# Altium schematic symbol library MZBT_SchLibrary.SchLib: 117 symbols (part 1 of 2)
Pins are listed as number, name and electrical type; pins without a type are passive.

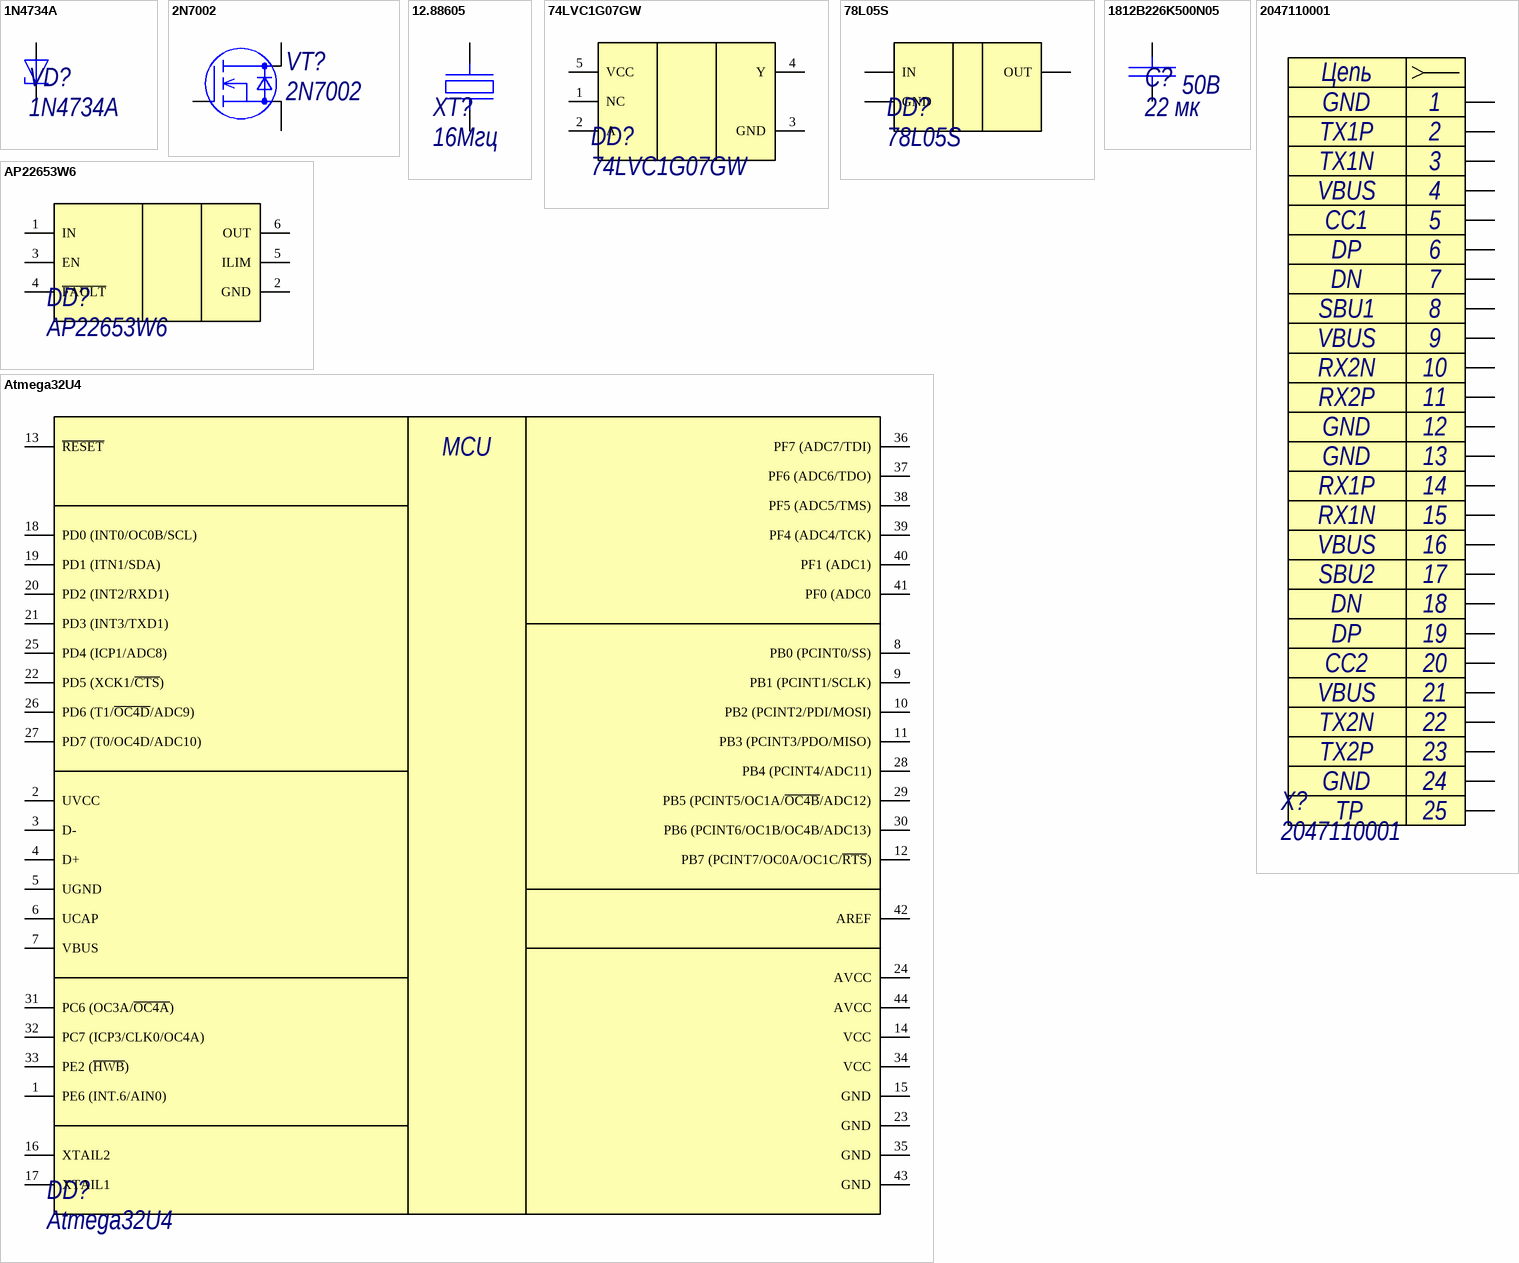
[diagram p0: symbols 1N4734A to Atmega32U4]

## 1N4734A
designator VD?
стабилитрон 5,6В; Name: 1N4734A
footprint DO-41 (zener diode)
footprint DO-41 Vertical
footprint SOD323
footprint SOD123
pins: 1 A, 2 K

## 2N7002
designator VT?
N-канальный мосфет 2N7002; Vgs: *; Rds: *; Vds: *; Name: 2N7002
footprint SOT23 (mosfet)
pins: 1 G, 2 S, 3 D

## 12.88605
designator XT?, comment 16Мгц
Резонатор / Geyer; Name: 12.88605; Value: 16Мгц
footprint KX-7
pins: 1, 3

## 74LVC1G07GW
designator DD?
буферный элемент с открытым стоком; Name: 74LVC1G07GW
pins: 1 NC, 2 A, 3 GND, 4 Y, 5 VCC

## 78L05S
designator DD?
линейный стабилизатор 5В 0.1А 78L05S; Contact_1: OUT+; Contact_2: IN+; Contact_3: GND; Name: 78L05S
footprint SOT23 (mosfet)
pins: 1 OUT, 2 IN, 3 GND

## 1812B226K500N05
designator C?, comment 22 мк  Напряжение: 50В
Керамический ЧИП-конденсатор 1812 X7R 22мкФ ±10% 50В; Наименование: 1812B226K500N05; Номинал: 22 мк
footprint C1812
pins: 1, 2

## 2047110001
designator X?
USB Type-C 3.1; Contact_1: GND; Contact_2: TX1P; Contact_3: TX1N; Contact_4: VBUS; Contact_5: CC1; Contact_6: DP; Contact_7: DN; Contact_8: SBU1; Contact_10: RX2N; Contact_11: RX2P; Contact_14: RX1P; Contact_15: RX1N; Contact_17: SBU2; Contact_20: CC2; Contact_22: TX2N; Contact_23: TX2P; Name: 2047110001; Contact_9: VBUS; Contact_12: GND; Contact_13: GND; Contact_16: VBUS; Contact_18: DN; Contact_19: DP; Contact_21: VBUS; Contact_24: GND
footprint 2047110001 (USB Type-C 3.1)
pins: 1 B8, 2 A5, 3 B7, 4 A6, 5 A7, 6 B6, 7 A8, 8 B5, 9 GND, 10 VCC, 11 VCC, 12 VCC, 13 VCC, 14 VCC, 15 VCC, 16 VCC, 17 VCC, 18 VCC, 19 VCC, 20 VCC, 21 VCC, 22 VCC, 23 VCC, 24 VCC, TP
text: Цепь; 25

## AP22653W6
designator DD?
PRECISION ADJUSTABLE CURRENT-LIMITED POWER SWITCHES; Name: AP22653W6
pins: 1 IN, 2 GND, 3 EN, 4 ~{FAULT}, 5 ILIM, 6 OUT

## Atmega32U4
designator DD?
Name: Atmega32U4
footprint VQFN32
pins: 1 PE6 (INT.6/AIN0), 2 UVCC, 3 D-, 4 D+, 5 UGND, 6 UCAP, 7 VBUS, 8 PB0 (PCINT0/SS), 9 PB1 (PCINT1/SCLK), 10 PB2 (PCINT2/PDI/MOSI), 11 PB3 (PCINT3/PDO/MISO), 12 PB7 (PCINT7/OC0A/OC1C/~{RTS}), 13 ~{RESET}, 14 VCC, 15 GND, 16 XTAIL2, 17 XTAIL1, 18 PD0 (INT0/OC0B/SCL), 19 PD1 (ITN1/SDA), 20 PD2 (INT2/RXD1), 21 PD3 (INT3/TXD1), 22 PD5 (XCK1/~{CTS}), 23 GND, 24 AVCC, 25 PD4 (ICP1/ADC8), 26 PD6 (T1/~{OC4D}/ADC9), 27 PD7 (T0/OC4D/ADC10), 28 PB4 (PCINT4/ADC11), 29 PB5 (PCINT5/OC1A/~{OC4B}/ADC12), 30 PB6 (PCINT6/OC1B/OC4B/ADC13), 31 PC6 (OC3A/~{OC4A}), 32 PC7 (ICP3/CLK0/OC4A), 33 PE2 (~{HWB}), 34 VCC, 35 GND, 36 PF7 (ADC7/TDI), 37 PF6 (ADC6/TDO), 38 PF5 (ADC5/TMS), 39 PF4 (ADC4/TCK), 40 PF1 (ADC1), 41 PF0 (ADC0, 42 AREF, 43 GND, 44 AVCC
text: MCU

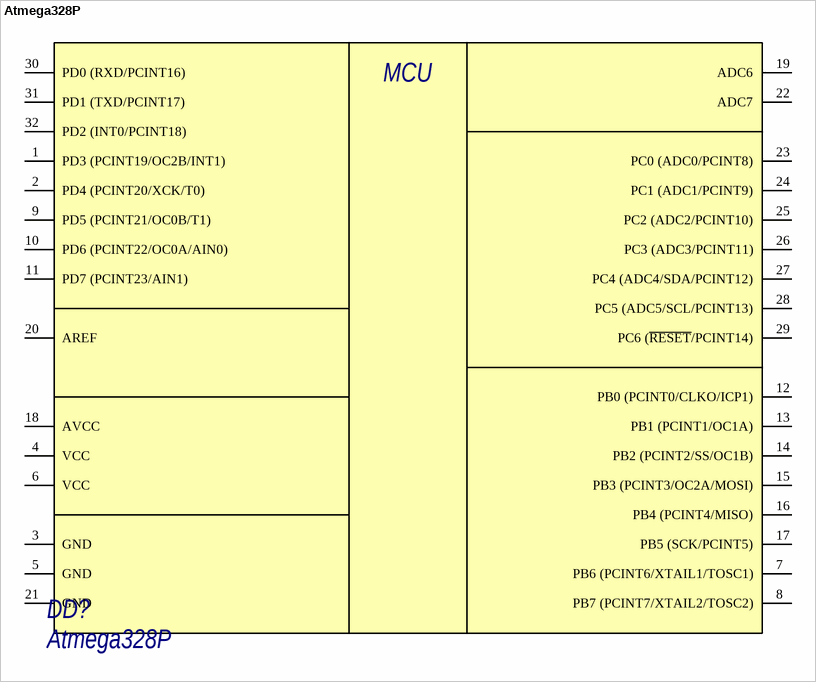
[diagram p1: symbol Atmega328P]

## Atmega328P
designator DD?
Atmega328P-MU; Name: Atmega328P
footprint VQFN32
pins: 1 PD3 (PCINT19/OC2B/INT1), 2 PD4 (PCINT20/XCK/T0), 3 GND, 4 VCC, 5 GND, 6 VCC, 7 PB6 (PCINT6/XTAIL1/TOSC1), 8 PB7 (PCINT7/XTAIL2/TOSC2), 9 PD5 (PCINT21/OC0B/T1), 10 PD6 (PCINT22/OC0A/AIN0), 11 PD7 (PCINT23/AIN1), 12 PB0 (PCINT0/CLKO/ICP1), 13 PB1 (PCINT1/OC1A), 14 PB2 (PCINT2/SS/OC1B), 15 PB3 (PCINT3/OC2A/MOSI), 16 PB4 (PCINT4/MISO), 17 PB5 (SCK/PCINT5), 18 AVCC, 19 ADC6, 20 AREF, 21 GND, 22 ADC7, 23 PC0 (ADC0/PCINT8), 24 PC1 (ADC1/PCINT9), 25 PC2 (ADC2/PCINT10), 26 PC3 (ADC3/PCINT11), 27 PC4 (ADC4/SDA/PCINT12), 28 PC5 (ADC5/SCL/PCINT13), 29 PC6 (~{RESET}/PCINT14), 30 PD0 (RXD/PCINT16), 31 PD1 (TXD/PCINT17), 32 PD2 (INT0/PCINT18)
text: MCU

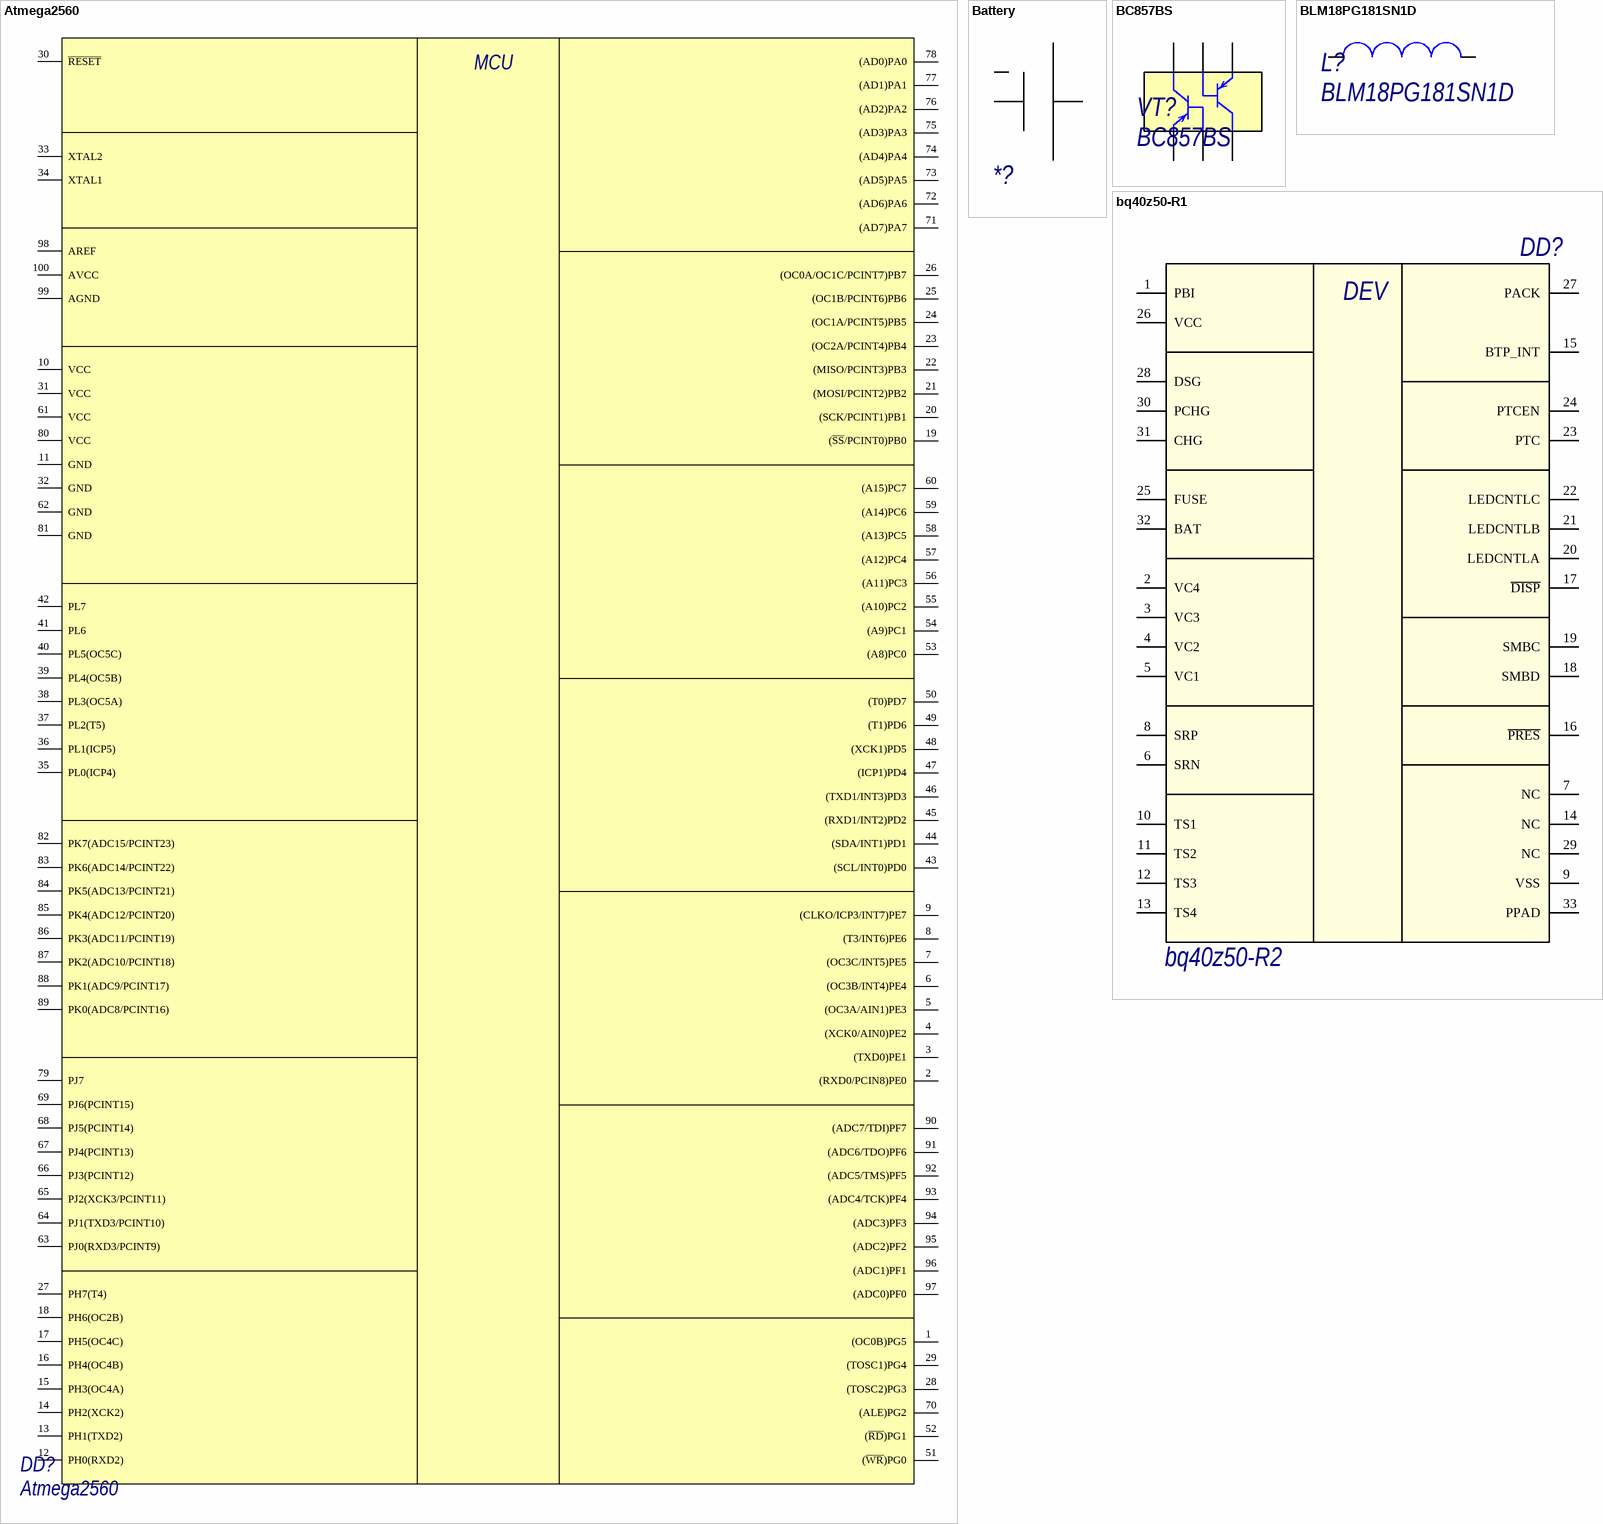
[diagram p2: symbols Atmega2560 to bq40z50-R1]

## Atmega2560
designator DD?
Name: Atmega2560
footprint 100A (atmega2560)
pins: 1 (OC0B)PG5, 2 (RXD0/PCIN8)PE0, 3 (TXD0)PE1, 4 (XCK0/AIN0)PE2, 5 (OC3A/AIN1)PE3, 6 (OC3B/INT4)PE4, 7 (OC3C/INT5)PE5, 8 (T3/INT6)PE6, 9 (CLKO/ICP3/INT7)PE7, 10 VCC, 11 GND, 12 PH0(RXD2), 13 PH1(TXD2), 14 PH2(XCK2), 15 PH3(OC4A), 16 PH4(OC4B), 17 PH5(OC4C), 18 PH6(OC2B), 19 (~{SS}/PCINT0)PB0, 20 (SCK/PCINT1)PB1, 21 (MOSI/PCINT2)PB2, 22 (MISO/PCINT3)PB3, 23 (OC2A/PCINT4)PB4, 24 (OC1A/PCINT5)PB5, 25 (OC1B/PCINT6)PB6, 26 (OC0A/OC1C/PCINT7)PB7, 27 PH7(T4), 28 (TOSC2)PG3, 29 (TOSC1)PG4, 30 ~{RESET}, 31 VCC, 32 GND, 33 XTAL2, 34 XTAL1, 35 PL0(ICP4), 36 PL1(ICP5), 37 PL2(T5), 38 PL3(OC5A), 39 PL4(OC5B), 40 PL5(OC5C), 41 PL6, 42 PL7, 43 (SCL/INT0)PD0, 44 (SDA/INT1)PD1, 45 (RXD1/INT2)PD2, 46 (TXD1/INT3)PD3, 47 (ICP1)PD4, 48 (XCK1)PD5, 49 (T1)PD6, 50 (T0)PD7, 51 (~{WR})PG0, 52 (~{RD})PG1, 53 (A8)PC0, 54 (A9)PC1, 55 (A10)PC2, 56 (A11)PC3, 57 (A12)PC4, 58 (A13)PC5, 59 (A14)PC6, 60 (A15)PC7, 61 VCC, 62 GND, 63 PJ0(RXD3/PCINT9), 64 PJ1(TXD3/PCINT10), 65 PJ2(XCK3/PCINT11), 66 PJ3(PCINT12), 67 PJ4(PCINT13), 68 PJ5(PCINT14), 69 PJ6(PCINT15), 70 (ALE)PG2, 71 (AD7)PA7, 72 (AD6)PA6, 73 (AD5)PA5, 74 (AD4)PA4, 75 (AD3)PA3, 76 (AD2)PA2, 77 (AD1)PA1, 78 (AD0)PA0, 79 PJ7, 80 VCC, 81 GND, 82 PK7(ADC15/PCINT23), 83 PK6(ADC14/PCINT22), 84 PK5(ADC13/PCINT21), 85 PK4(ADC12/PCINT20), 86 PK3(ADC11/PCINT19), 87 PK2(ADC10/PCINT18), 88 PK1(ADC9/PCINT17), 89 PK0(ADC8/PCINT16), 90 (ADC7/TDI)PF7, 91 (ADC6/TDO)PF6, 92 (ADC5/TMS)PF5, 93 (ADC4/TCK)PF4, 94 (ADC3)PF3, 95 (ADC2)PF2, 96 (ADC1)PF1, 97 (ADC0)PF0, 98 AREF, 99 AGND, 100 AVCC
text: MCU

## Battery
designator *?  (value not drawn)
Name: *
footprint BATTERY -18650
pins: 1, 2

## BC857BS
designator VT?
двойной транзистор BC857BS; Name: BC857BS
pins: 1, 2, 3, 4, 5, 6

## BLM18PG181SN1D
designator L?
Феритовая бусина 180 Ом @ 100МГц; Name: BLM18PG181SN1D
footprint L0603
pins: 1, 2

## bq40z50-R1
designator DD?, comment bq40z50-R2
Name: bq40z50-R2
footprint RSM (S-PVQFN-N32)
pins: 1 NC hidden, 1 PBI, 2 VC4, 3 VC3, 4 VC2, 5 VC1, 6 SRN, 7 NC, 8 SRP, 9 VSS, 10 TS1, 11 TS2, 12 NC hidden, 12 TS3, 13 TS4, 14 NC, 15 NC hidden, 15 BTP_INT, 16 ~{PRES}, 17 ~{DISP}, 18 SMBD, 19 SMBC, 20 LEDCNTLA, 21 LEDCNTLB, 22 LEDCNTLC, 23 PTC, 24 PTCEN, 25 FUSE, 26 VCC, 27 PACK, 28 NC hidden, 28 DSG, 29 NC, 30 PCHG, 31 CHG, 32 BAT, 33 PPAD
text: DEV

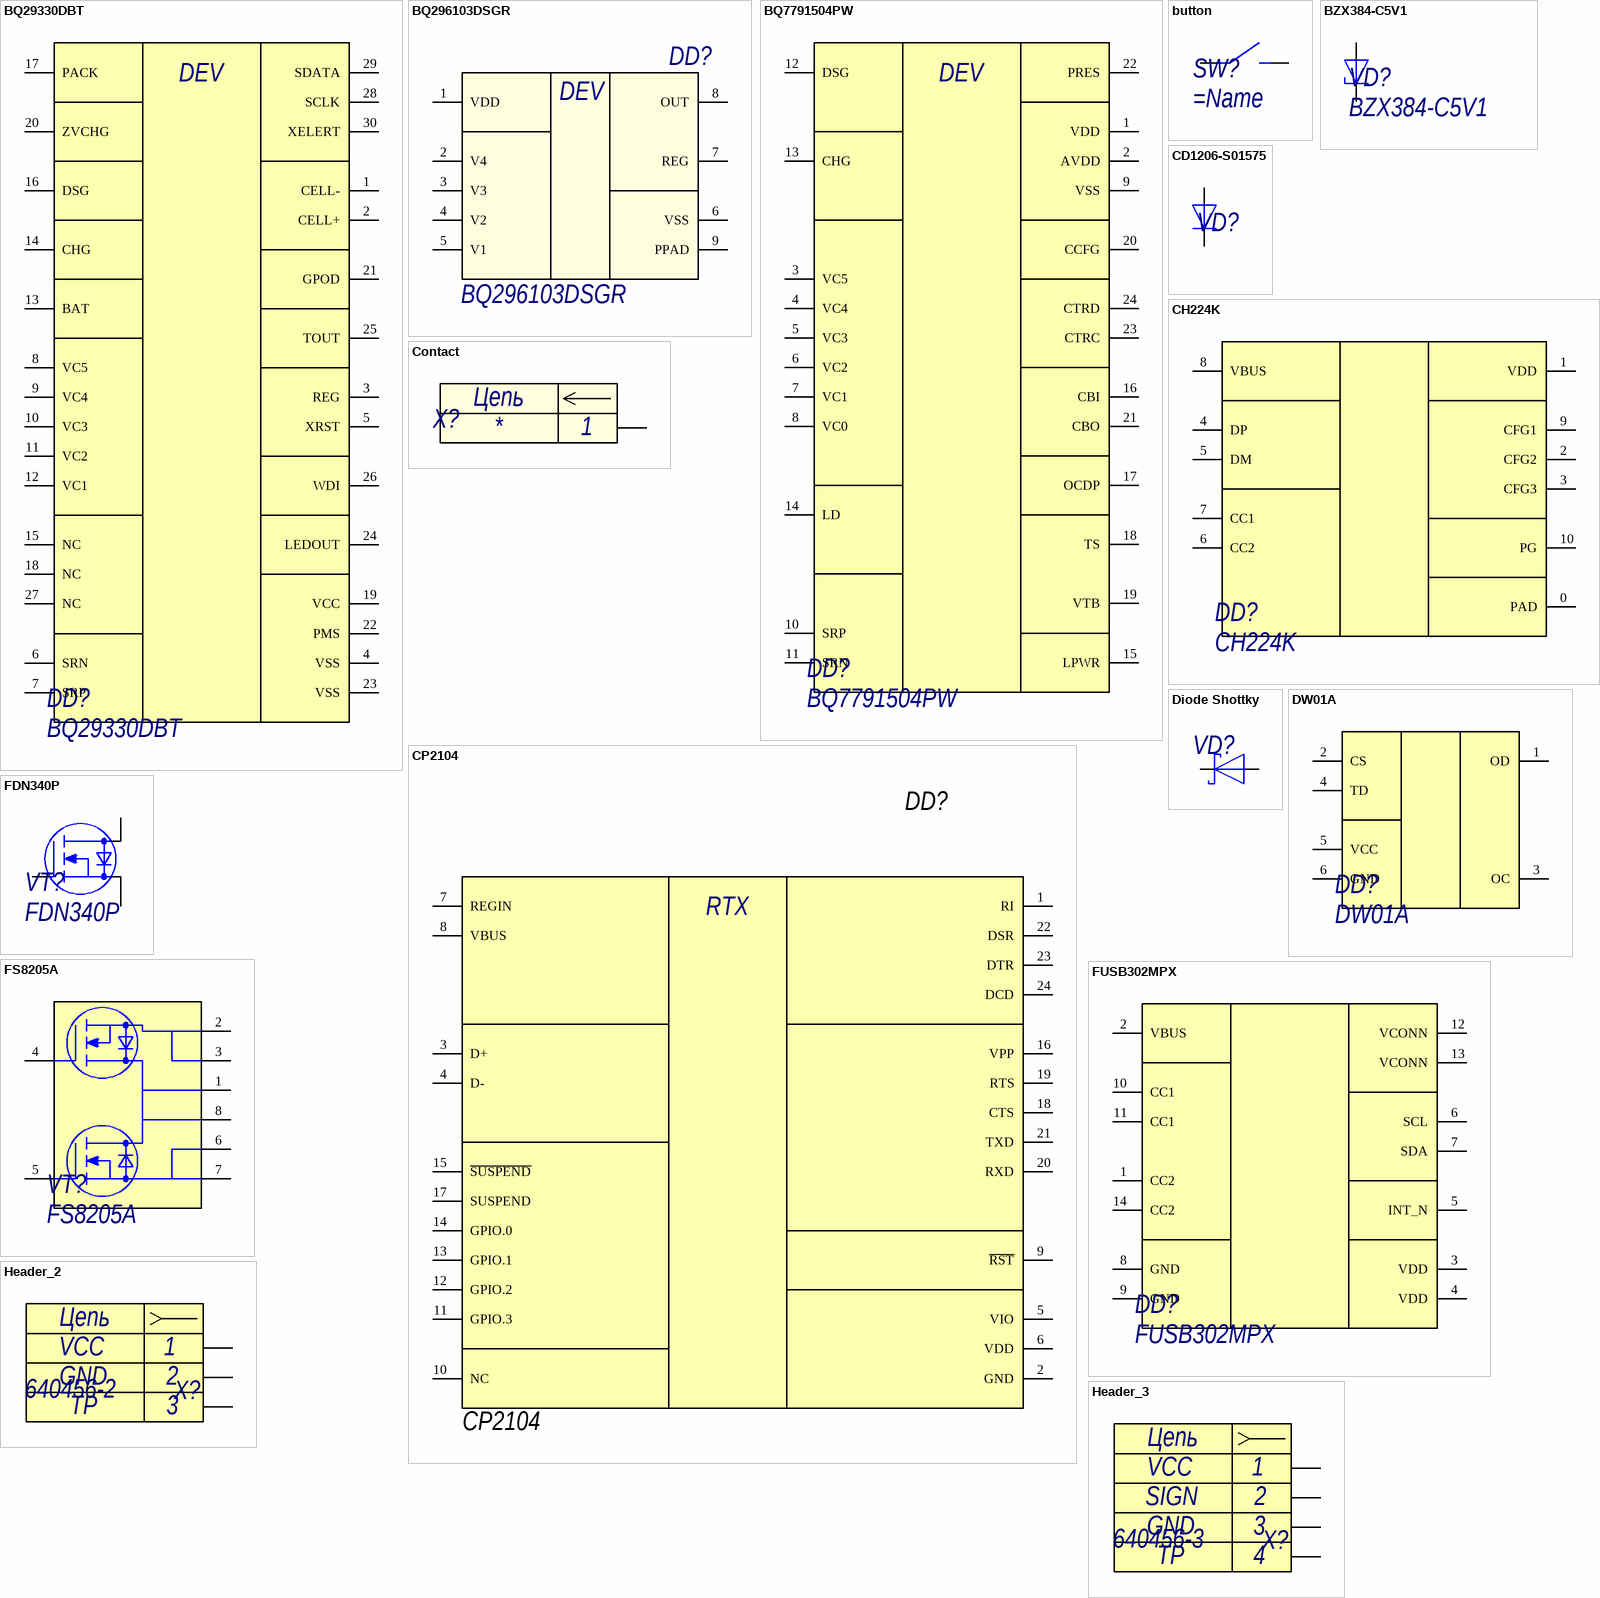
[diagram p3: symbols BQ29330DBT to Header_3]

## BQ29330DBT
designator DD?
Монитор батареи 2-4S; Name: BQ29330DBT
pins: 1 CELL-, 2 CELL+, 3 REG, 4 VSS, 5 XRST, 6 SRN, 7 SRP, 8 VC5, 9 VC4, 10 VC3, 11 VC2, 12 VC1, 13 BAT, 14 CHG, 15 NC, 16 DSG, 17 PACK, 18 NC, 19 VCC, 20 ZVCHG, 21 GPOD, 22 PMS, 23 VSS, 24 LEDOUT, 25 TOUT, 26 WDI, 27 NC, 28 SCLK, 29 SDATA, 30 XELERT
text: DEV

## BQ296103DSGR
designator DD?
x Overvoltage Protection for 2-Series, 3-Series, and 4-Series Cell  Li-Ion Batteries; Name: BQ296103DSGR
footprint WSON-8 (PSON, 8-Leads, Body 4x4mm, Pitch 0.8mm, NSC Recommended)
pins: 1 VDD, 2 V4, 3 V3, 4 V2, 5 V1, 6 VSS, 7 REG, 8 OUT, 9 PPAD, 15 NC hidden, 18 NC hidden, 27 NC hidden
text: DEV

## BQ7791504PW
designator DD?
Монитор батареи 3-5S; Name: BQ7791504PW
footprint TSSOP24 (Shrink Small Outline; 24 Leads; Body Width 4.4 mm; Pitch 0.65 mm)
pins: 1 VDD, 2 AVDD, 3 VC5, 4 VC4, 5 VC3, 6 VC2, 7 VC1, 8 VC0, 9 VSS, 10 SRP, 11 SRN, 12 DSG, 13 CHG, 14 LD, 15 LPWR, 16 CBI, 17 OCDP, 18 TS, 19 VTB, 20 CCFG, 21 CBO, 22 PRES, 23 CTRC, 24 CTRD
text: DEV

## button
designator SW?
footprint it-1187 (switch)
footprint OMRON_B3U-1000P
footprint KTD0621 (silicon tact switch)
pins: 1, 2

## BZX384-C5V1
designator VD?
стабилитрон 5,1В; Name: BZX384-C5V1
footprint DO-41 (zener diode)
footprint DO-41 Vertical
footprint SOD323
footprint SOD123
pins: 1 A, 2 K

## CD1206-S01575
designator VD?
диод
footprint DO-214AC (Molded Diode, 2-Leads, Body 4,30x2,70mm, IPC Medium Density)
pins: 1 K, 2 A

## CH224K
designator DD?
USB PD и BC1.2 триггер 5-20В; Name: CH224K
footprint ESSOP-10 (SOP, 10-Leads, Body 5,00x3,90mm, Pitch 1,00mm, Thermal Pad 3,20x2,30mm, IPC Medium Density)
pins: 0 PAD, 1 VDD, 2 CFG2, 3 CFG3, 4 DP, 5 DM, 6 CC2, 7 CC1, 8 VBUS, 9 CFG1, 10 PG

## Contact
designator X?
Контакт; Contact_1: *
footprint PAD 10 X 5
footprint BMS_PAD
footprint BMS_PAD ONLY HOLE
pins: 1
text: Цепь

## CP2104
designator DD?
Наименование: CP2104
footprint QFN24-PAD (CP2104(Primary))
pins: 1 RI, 2 GND, 3 D+, 4 D-, 5 VIO, 6 VDD, 7 REGIN, 8 VBUS, 9 ~{RST}, 10 NC, 11 GPIO.3, 12 GPIO.2, 13 GPIO.1, 14 GPIO.0, 15 ~{SUSPEND}, 16 VPP, 17 SUSPEND, 18 CTS, 19 RTS, 20 RXD, 21 TXD, 22 DSR, 23 DTR, 24 DCD
text: RTX

## Diode Shottky
designator VD?  (value not drawn)
Диод Шоттки; Name: *
footprint SOD323
footprint SOD123
pins: 1 K, 2 A

## DW01A
designator DD?
контроллер заряда; Name: DW01A
footprint SOT23-6 (SOT95P280X145-6N, SOT23, 6-Leads, Body 2,90x2,80mm, Pitch 0,95mm, IPC Medium Density)
pins: 1 OD, 2 CS, 3 OC, 4 TD, 5 VCC, 6 GND

## FDN340P
designator VT?
Name: FDN340P
footprint SOT23 (mosfet)
pins: 1 G, 2 S, 3 D

## FS8205A
designator VT?
мофсфет; Name: FS8205A
footprint TSSOP-8
pins: 1 D12, 2 S1, 3 S1, 4 G1, 5 G2, 6 S2, 7 S2, 8 D12

## FUSB302MPX
designator DD?
Контроллер USB Type-C 3.1; Name: FUSB302MPX
footprint MLP-14 (PQFN, 14-Leads, Body 2,50x2,50mm, Pitch 0,50mm, Thermal Pad 1,74x1,24mm, IPC Medium Density)
pins: 1 CC2, 2 VBUS, 3 VDD, 4 VDD, 5 INT_N, 6 SCL, 7 SDA, 8 GND, 9 GND, 10 CC1, 11 CC1, 12 VCONN, 13 VCONN, 14 CC2

## Header_2
designator X?, comment 640456-2
Разъем - 2 конт. розетка; Contact_1: VCC; Contact_2: GND; Contact_3: TP; Name: 640456-2
footprint JST-640456-2
footprint Clik-Mate 2
footprint 53048-0210
footprint CWF-2
footprint CWF-2R
footprint MW-2M
footprint MW-2MR
pins: 0, 1, 2
text: Цепь; 3

## Header_3
designator X?, comment 640456-3
Разъем - 3 конт. розетка; Contact_1: VCC; Contact_2: SIGN; Contact_3: GND; Contact_4: TP; Name: 640456-3
footprint JST-640456-3
footprint Clik-Mate 3 (5054050370)
footprint CWF-3
pins: 0, 1, 2, 3
text: Цепь; 4

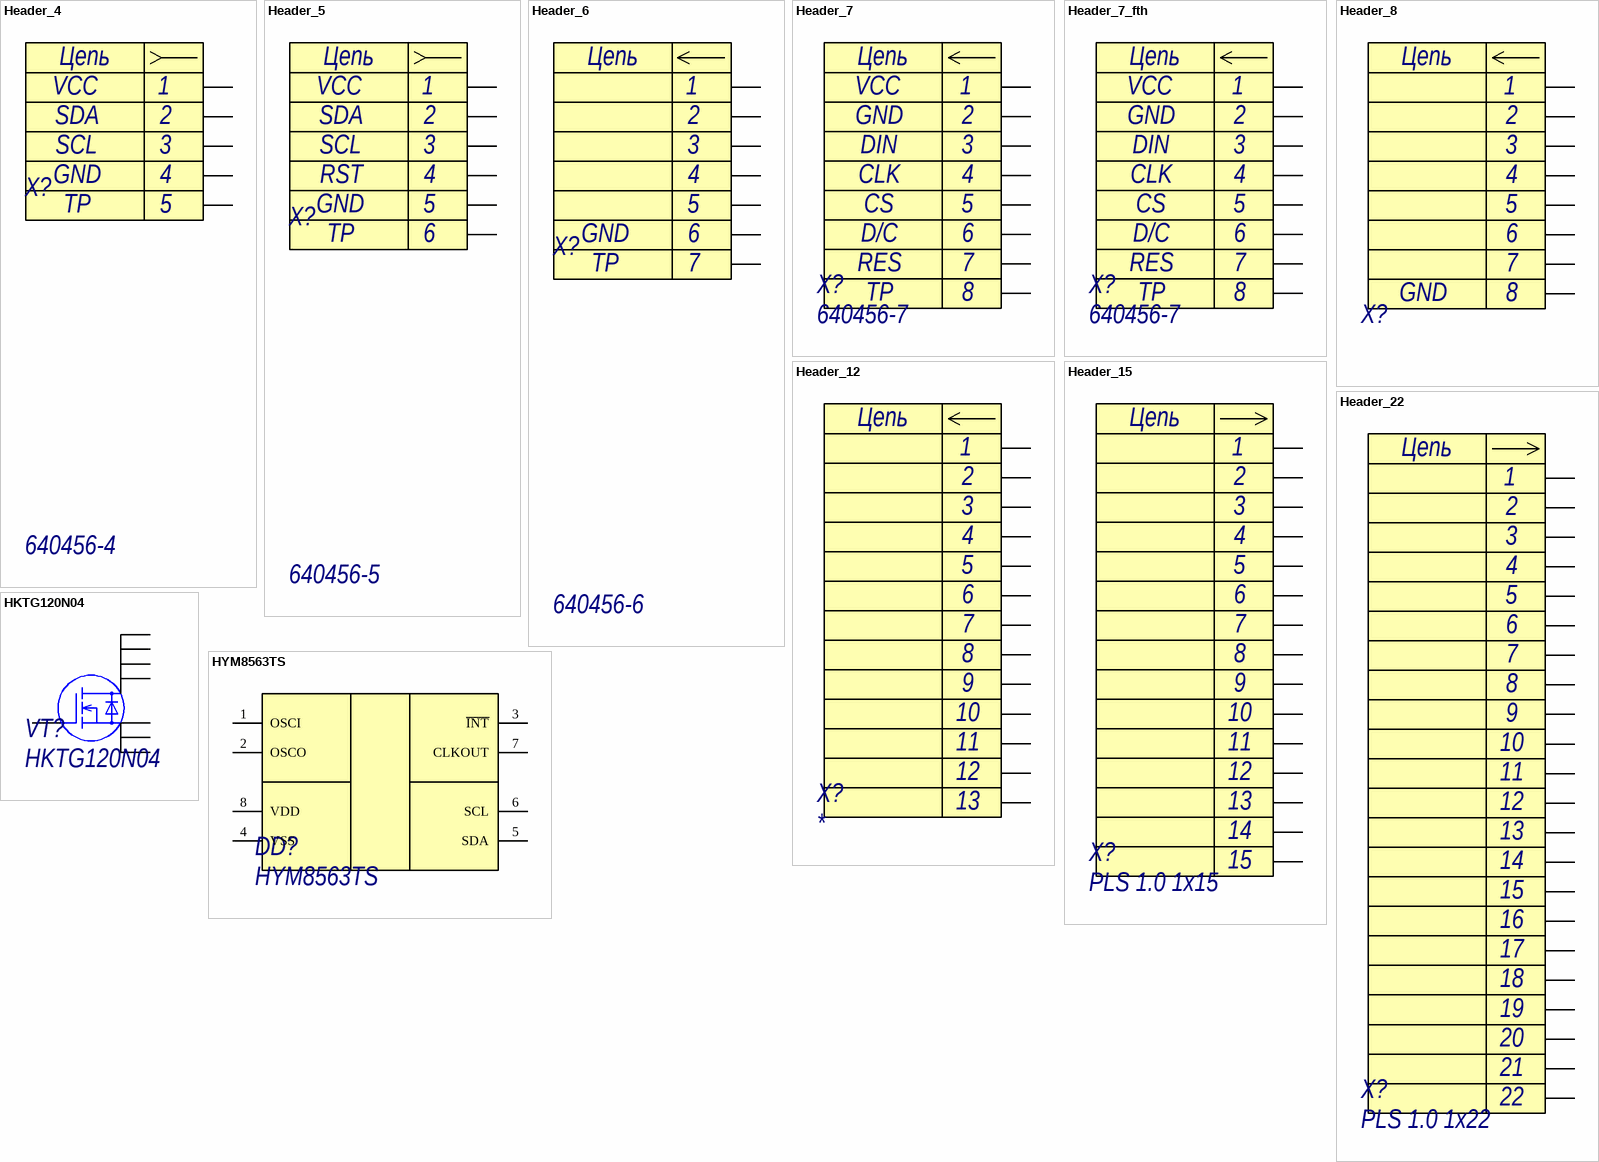
[diagram p4: symbols Header_4 to HYM8563TS]

## Header_4
designator X?, comment 640456-4
Разъем - 4 конт. мама; Contact_1: VCC; Contact_2: SDA; Contact_3: SCL; Contact_4: GND; Contact_5: TP; Name: 640456-4
footprint JST-640456-4
footprint Clik-Mate 4 (5054050470)
footprint CWF-4
footprint DS1020-07-04VBT1A-R (FPC разъем для шлейфа на плату, поверхностный монтаж 4pin, шаг 1.00мм)
pins: 0, 1, 2, 3, 4
text: Цепь; 5

## Header_5
designator X?, comment 640456-5
Разъем - 5 конт. мама; Contact_1: VCC; Contact_2: SDA; Contact_3: SCL; Contact_4: RST; Contact_5: GND; Contact_6: TP; Name: 640456-5
footprint JST-640456-5
footprint Clik-Mate 5 (5054050670)
footprint CWF-5
pins: 0, 1, 2, 3, 4, 5
text: Цепь; 6

## Header_6
designator X?, comment 640456-6
Разъем - 6 конт. мама; Contact_6: GND; Contact_7: TP; Name: 640456-6
footprint JST-640456-6
footprint CWF-6
footprint PicoBlade-6 SMD
footprint LCP 6 pin (FFC мама 6 контактов)
pins: 0, 1, 2, 3, 4, 5, 6
text: Цепь; 7

## Header_7
designator X?, comment 640456-7
Разъем - 7 конт. мама; Contact_1: VCC; Contact_2: GND; Contact_3: DIN; Contact_4: CLK; Contact_5: CS; Contact_6: D/C; Contact_7: RES; Contact_8: TP; Name: 640456-7
footprint JST-640456-7
footprint Clik-Mate 7 (505405-0770)
footprint LCP UL94-V0 (FFC мама 7 контактов)
footprint 2+5P Header FATHER
footprint 7P Header FATHER
footprint 7P Header MOTHER
pins: 0, 1, 2, 3, 4, 5, 6, 7
text: Цепь; 8

## Header_7_fth
designator X?, comment 640456-7
Разъем - 7 конт. папа; Contact_1: VCC; Contact_2: GND; Contact_3: DIN; Contact_4: CLK; Contact_5: CS; Contact_6: D/C; Contact_7: RES; Contact_8: TP; Name: 640456-7
footprint JST-640456-7
footprint Clik-Mate 7 (505405-0770)
footprint LCP UL94-V0 (FFC мама 7 контактов)
footprint 2+5P Header MOTHER
pins: 0, 1, 2, 3, 4, 5, 6, 7
text: Цепь; 8

## Header_8
designator X?
Разъем - 8 конт. мама; Contact_8: GND
footprint PLS 4 x 2 (2.54)
pins: 1, 2, 3, 4, 5, 6, 7, 8
text: Цепь

## Header_12
designator X?
Разъем - 12 конт. мама; Name: *
footprint PicoBlade-12
footprint PicoBlade-12 fallen2
footprint PicoBlade-12 SMD
pins: 0, 1, 2, 3, 4, 5, 6, 7, 8, 9, 10, 11, 12
text: Цепь; 13

## Header_15
designator X?, comment PLS 1.0 1x15
Разъем - 15 конт. папа; Name: PLS 1.0 1x15
footprint PLS_1x15 1.0 - without contour
pins: 1, 2, 3, 4, 5, 6, 7, 8, 9, 10, 11, 12, 13, 14, 15
text: Цепь

## Header_22
designator X?, comment PLS 1.0 1x22
Разъем - 22 конт. папа; Name: PLS 1.0 1x22
footprint PLS_1x22 1.0 - without contour
pins: 1, 2, 3, 4, 5, 6, 7, 8, 9, 10, 11, 12, 13, 14, 15, 16, 17, 18, 19, 20, 21, 22
text: Цепь

## HKTG120N04
designator VT?
N-канальный мосфет 120А 40В; Наименование: HKTG120N04
footprint PDFN5X6 (PDFN5X6, 8-Leads, Body 5,00x6,00mm, Pitch 1,27mm)
pins: 1 S, 2 S, 3 S, 4 G, 5 D, 6 D, 7 D, 8 D

## HYM8563TS
designator DD?
Часы реального времени, есть PinToPin аналог - AT8563; Name: HYM8563TS
footprint SOP-8 (SOP127P600X175-8N, SOP, 8-Leads, Body 4,91x3,95mm, Pitch 1,27mm, IPC Medium Density)
pins: 1 OSCI, 2 OSCO, 3 ~{INT}, 4 VSS, 5 SDA, 6 SCL, 7 CLKOUT, 8 VDD

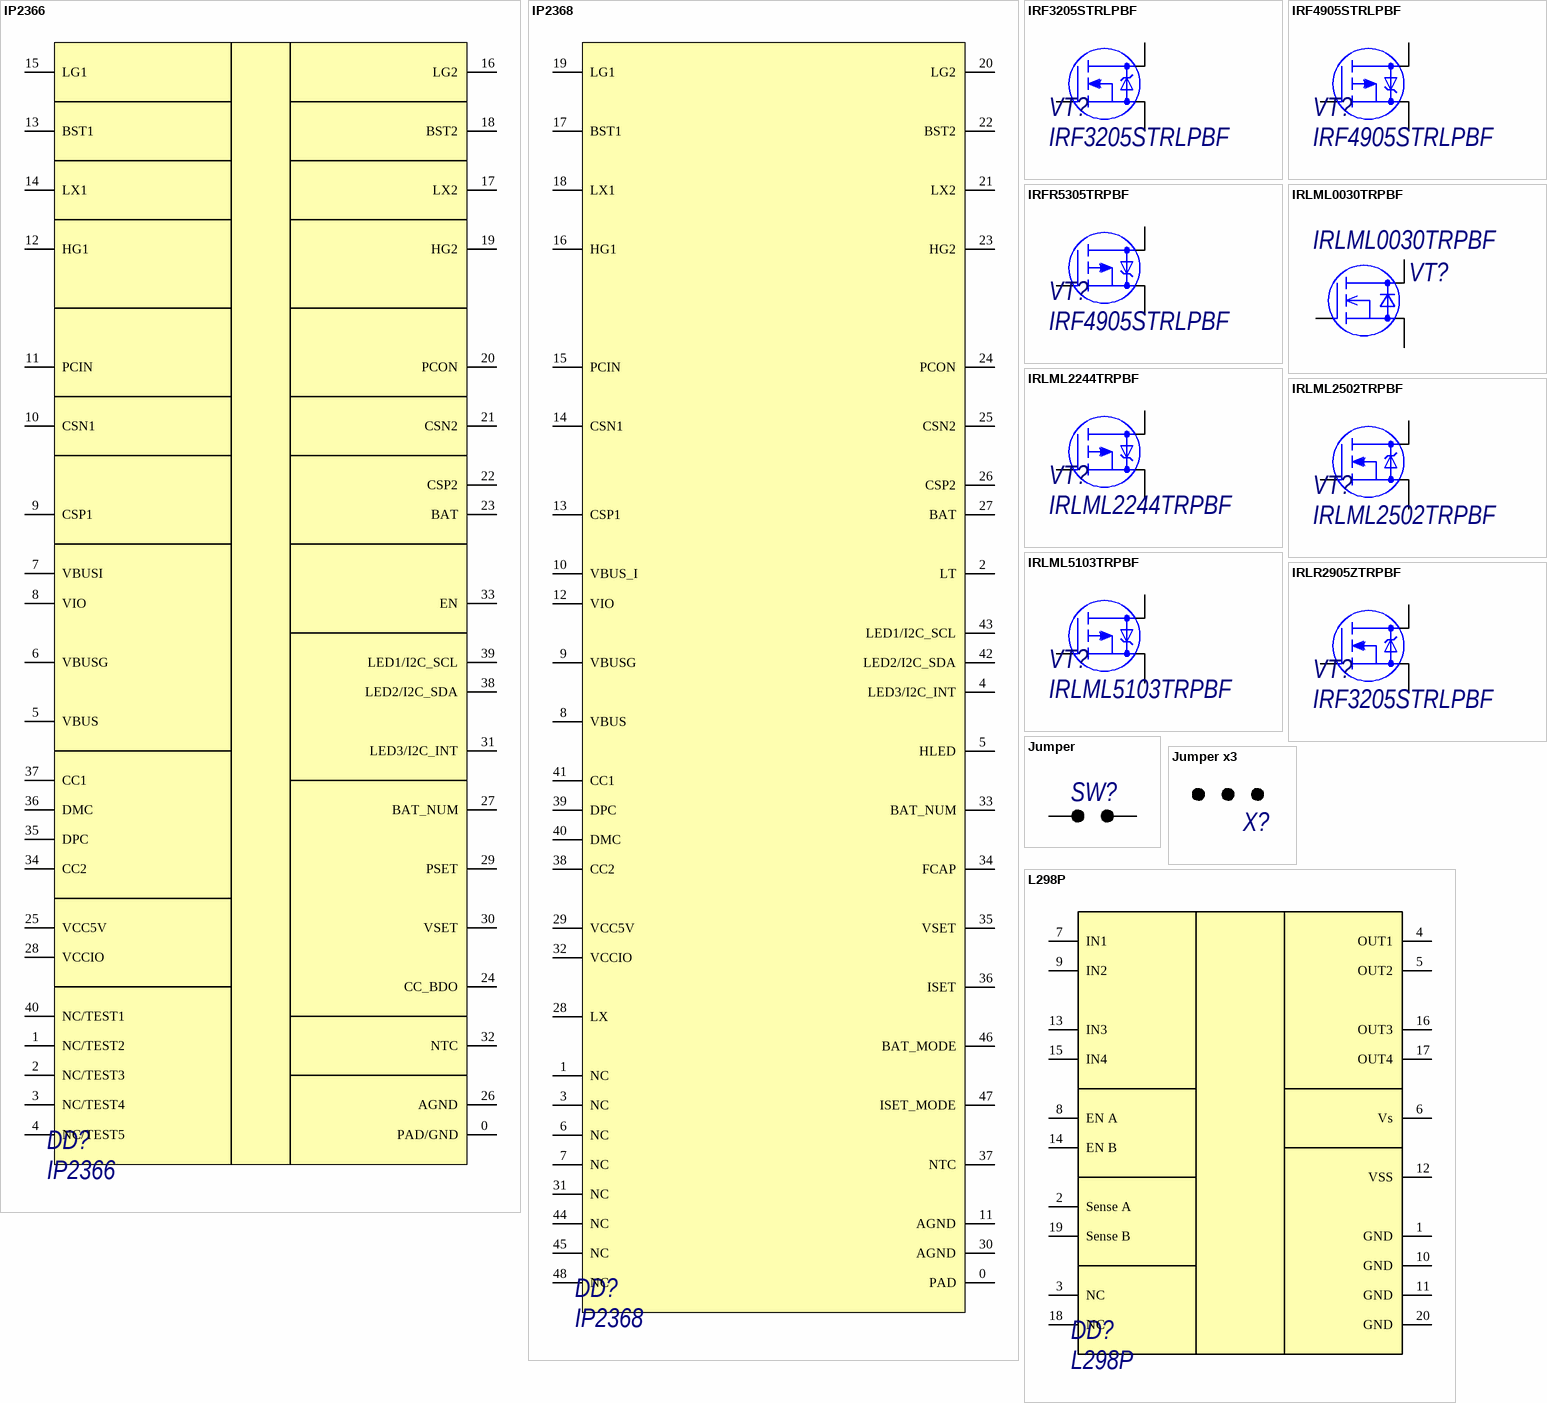
[diagram p5: symbols IP2366 to L298P]

## IP2366
designator DD?
USB PD3.1 микросхема зарядки аккумулятора 2-6S; Наименование: IP2366; Описание: USB PD3.1 микросхема зарядки аккумулятора 2-6S
footprint PQFN40 (PQFN, 40-Leads, Body 5,00x5,00mm, Pitch 0,40mm, Thermal Pad 3,70x3,70mm, IPC Medium Density)
pins: 0 PAD/GND, 1 NC/TEST2, 2 NC/TEST3, 3 NC/TEST4, 4 NC/TEST5, 5 VBUS, 6 VBUSG, 7 VBUSI, 8 VIO, 9 CSP1, 10 CSN1, 11 PCIN, 12 HG1, 13 BST1, 14 LX1, 15 LG1, 16 LG2, 17 LX2, 18 BST2, 19 HG2, 20 PCON, 21 CSN2, 22 CSP2, 23 BAT, 24 CC_BDO, 25 VCC5V, 26 AGND, 27 BAT_NUM, 28 VCCIO, 29 PSET, 30 VSET, 31 LED3/I2C_INT, 32 NTC, 33 EN, 34 CC2, 35 DPC, 36 DMC, 37 CC1, 38 LED2/I2C_SDA, 39 LED1/I2C_SCL, 40 NC/TEST1

## IP2368
designator DD?
USB PD3.0 микросхема зарядки аккумулятора 2-5S; Наименование: IP2368; Описание: USB PD3.0 микросхема зарядки аккумулятора 2-5S
footprint PQFN48 (PQFN, 48-Leads, Body 7,00x7,00mm, Pitch 0,50mm, Thermal Pad 5,40x5,40mm, IPC Medium Density)
pins: 0 PAD, 1 NC, 2 LT, 3 NC, 4 LED3/I2C_INT, 5 HLED, 6 NC, 7 NC, 8 VBUS, 9 VBUSG, 10 VBUS_I, 11 AGND, 12 VIO, 13 CSP1, 14 CSN1, 15 PCIN, 16 HG1, 17 BST1, 18 LX1, 19 LG1, 20 LG2, 21 LX2, 22 BST2, 23 HG2, 24 PCON, 25 CSN2, 26 CSP2, 27 BAT, 28 LX, 29 VCC5V, 30 AGND, 31 NC, 32 VCCIO, 33 BAT_NUM, 34 FCAP, 35 VSET, 36 ISET, 37 NTC, 38 CC2, 39 DPC, 40 DMC, 41 CC1, 42 LED2/I2C_SDA, 43 LED1/I2C_SCL, 44 NC, 45 NC, 46 BAT_MODE, 47 ISET_MODE, 48 NC

## IRF3205STRLPBF
designator VT?
Транзистор полевой N-канальный 55В 110А 200Вт; Name: IRF3205STRLPBF
footprint D2PAK
pins: 1 G, 2 S, 3 D

## IRF4905STRLPBF
designator VT?
Транзистор полевой P-канальный 55В 42А 170Вт; Name: IRF4905STRLPBF
footprint D2PAK
pins: 1 G, 2 S, 3 D

## IRFR5305TRPBF
designator VT?, comment IRF4905STRLPBF
Транзистор полевой P-канальный -55В -31А 110Вт 0,065Ом; Name: IRF4905STRLPBF
footprint D2PAK
pins: 1 G, 2 S, 3 D

## IRLML0030TRPBF
designator VT?
N-канальный мосфет IRLML0030TRPBF; Vgs: *; Rds: *; Vds: *; Name: IRLML0030TRPBF
footprint SOT23 (mosfet)
pins: 1 G, 2 S, 3 D

## IRLML2244TRPBF
designator VT?
мосфет p-канал IRLML2244TRPBF; Name: IRLML2244TRPBF
footprint SOT23 (mosfet)
pins: 1 G, 2 S, 3 D

## IRLML2502TRPBF
designator VT?
мосфет n-канал IRLML2502TRPBF; Name: IRLML2502TRPBF
footprint SOT23 (mosfet)
pins: 1 G, 2 S, 3 D

## IRLML5103TRPBF
designator VT?
мосфет p-канал IRLML5103TRPBF; Name: IRLML5103TRPBF
footprint SOT23 (mosfet)
pins: 1 G, 2 S, 3 D

## IRLR2905ZTRPBF
designator VT?, comment IRF3205STRLPBF
Транзистор полевой N-канальный 55В 42А 110Вт; Name: IRF3205STRLPBF
footprint D2PAK
pins: 1 G, 2 S, 3 D

## Jumper
designator SW?
Перемычка
footprint Jumper_0.5x1
footprint Jumper_1x1 (1x1)
footprint PLD 1.27X2
footprint PLD 2.54X2
pins: 1, 2

## Jumper x3
designator X?, comment Jumper_3  (value not drawn)  (no BOM)
Перемычка паяльная на плате; ID: 28; Name: SW_Jumper_3_pins; Основной тип: Места под пайку; Доп_Тип: Перемычки; Тип корпуса: 0805; Value: Jumper_3
footprint solid_jumper_3
pins: 1, 2, 3

## L298P
designator DD?
dual H-bridge driver; Name: L298P
footprint PowerSO20 (SO20, 20-Leads, Body 15,70x11,00mm, Pitch 1,27mm, Thermal Pad 9,80x6,20mm, IPC Medium Density)
pins: 1 GND, 2 Sense A, 3 NC, 4 OUT1, 5 OUT2, 6 Vs, 7 IN1, 8 EN A, 9 IN2, 10 GND, 11 GND, 12 VSS, 13 IN3, 14 EN B, 15 IN4, 16 OUT3, 17 OUT4, 18 NC, 19 Sense B, 20 GND

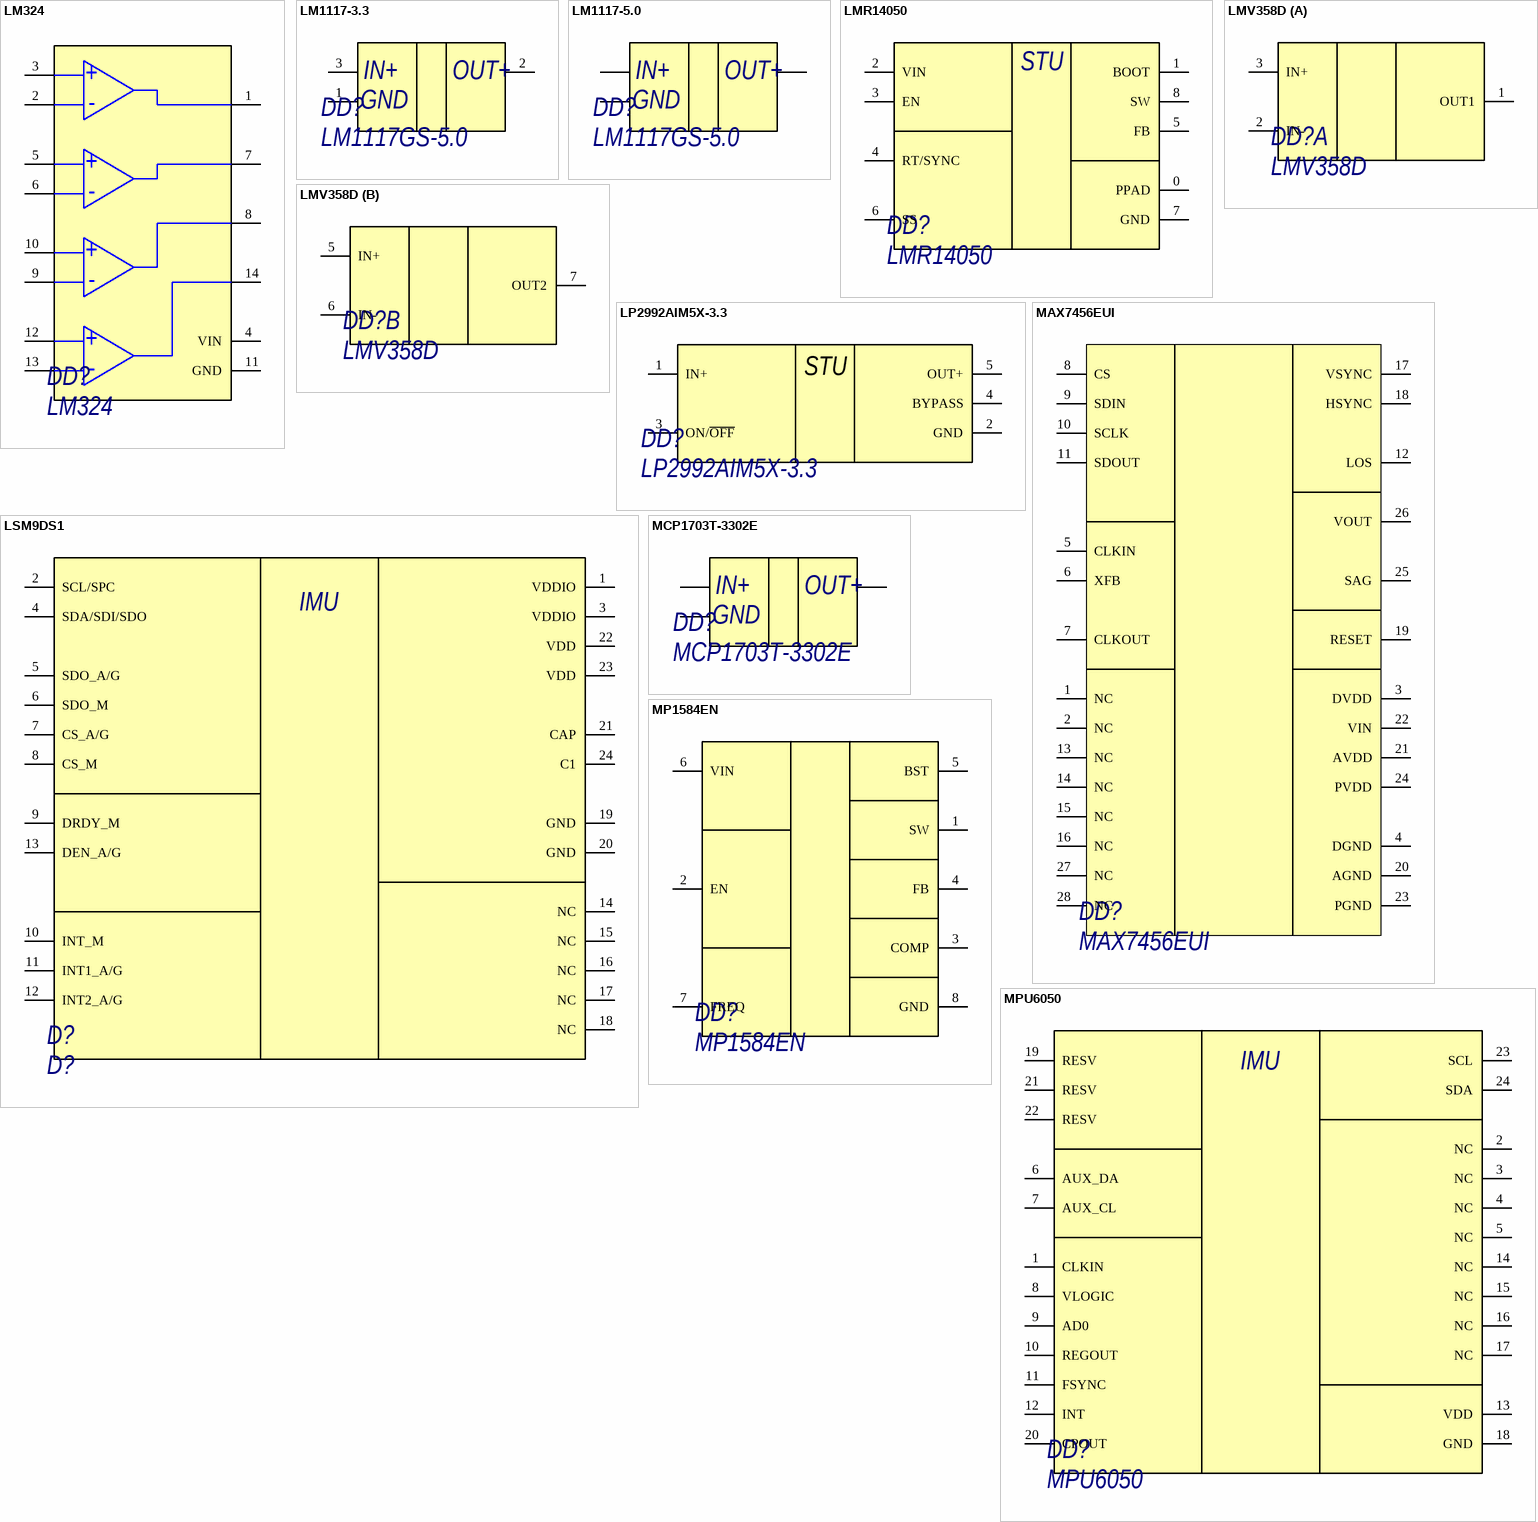
[diagram p6: symbols LM324 to MPU6050]

## LM324
designator DD?
Name: LM324
footprint TSSOP-14
footprint SO-14
pins: 1, 2, 3, 4 VIN, 5, 6, 7, 8, 9, 10, 11 GND, 12, 13, 14
text: +; -

## LM1117-3.3
designator DD?, comment LM1117GS-5.0
LM1117GS-3.3; Contact_1: IN+; Contact_2: GND; Contact_3: OUT+; Name: LM1117GS-5.0
footprint SOT-223 (MC33269)
footprint TO-252 (TO-252(DPAK) Package)
pins: 1, 2, 3

## LM1117-5.0
designator DD?, comment LM1117GS-5.0
Contact_1: IN+; Contact_2: GND; Contact_3: OUT+; Name: LM1117GS-5.0
footprint SOT-223 (MC33269)
pins: 1, 2, 3

## LMR14050
designator DD?
Name: LMR14050
footprint SOIC-8 with PAD
pins: 0 PPAD, 1 BOOT, 2 VIN, 3 EN, 4 RT/SYNC, 5 FB, 6 SS, 7 GND, 8 SW
text: STU

## LMV358D
designator DD?
Name: LMV358D
footprint SOIC-8 (LMV358)
part A pins: 1 OUT1, 2 IN-, 3 IN+
part B pins: 5 IN+, 6 IN-, 7 OUT2

## LP2992AIM5X-3.3
designator DD?
LP2992AIM5X-3.3 стабилизатор напряжения 3,3В; Name: LP2992AIM5X-3.3
footprint SOT23-5
pins: 1 IN+, 2 GND, 3 ON/~{OFF}, 4 BYPASS, 5 OUT+
text: STU

## LSM9DS1
designator D?, comment D?
Микросхема гироскопа LSM9DS1; Name: LSM9DS1
footprint LGA 24
pins: 1 VDDIO, 2 SCL/SPC, 3 VDDIO, 4 SDA/SDI/SDO, 5 SDO_A/G, 6 SDO_M, 7 CS_A/G, 8 CS_M, 9 DRDY_M, 10 INT_M, 11 INT1_A/G, 12 INT2_A/G, 13 DEN_A/G, 14 NC, 15 NC, 16 NC, 17 NC, 18 NC, 19 GND, 20 GND, 21 CAP, 22 VDD, 23 VDD, 24 C1
text: IMU

## MAX7456EUI
designator DD?
Микросхема обработки видео; Наименование: MAX7456EUI
footprint TTSOP28 (TSOP, 28-Leads, Body 9,70x4,40mm, Pitch 0,65mm, Thermal Pad 5,65x3,15mm, IPC Medium Density)
pins: 1 NC, 2 NC, 3 DVDD, 4 DGND, 5 CLKIN, 6 XFB, 7 CLKOUT, 8 CS, 9 SDIN, 10 SCLK, 11 SDOUT, 12 LOS, 13 NC, 14 NC, 15 NC, 16 NC, 17 VSYNC, 18 HSYNC, 19 RESET, 20 AGND, 21 AVDD, 22 VIN, 23 PGND, 24 PVDD, 25 SAG, 26 VOUT, 27 NC, 28 NC

## MCP1703T-3302E
designator DD?
MCP1703T-3302E стабилизатор напряжения 3,3В; Contact_1: IN+; Contact_2: GND; Contact_3: OUT+; Name: MCP1703T-3302E
footprint SOT23 (mosfet)
pins: 1, 2, 3

## MP1584EN
designator DD?
регулируемый стабилизатор напряжения; Name: MP1584EN
pins: 1 SW, 2 EN, 3 COMP, 4 FB, 5 BST, 6 VIN, 7 FREQ, 8 GND

## MPU6050
designator DD?
Name: MPU6050
footprint QFN24-PAD (QFN 24Pin)
pins: 1 CLKIN, 2 NC, 3 NC, 4 NC, 5 NC, 6 AUX_DA, 7 AUX_CL, 8 VLOGIC, 9 AD0, 10 REGOUT, 11 FSYNC, 12 INT, 13 VDD, 14 NC, 15 NC, 16 NC, 17 NC, 18 GND, 19 RESV, 20 CPOUT, 21 RESV, 22 RESV, 23 SCL, 24 SDA
text: IMU

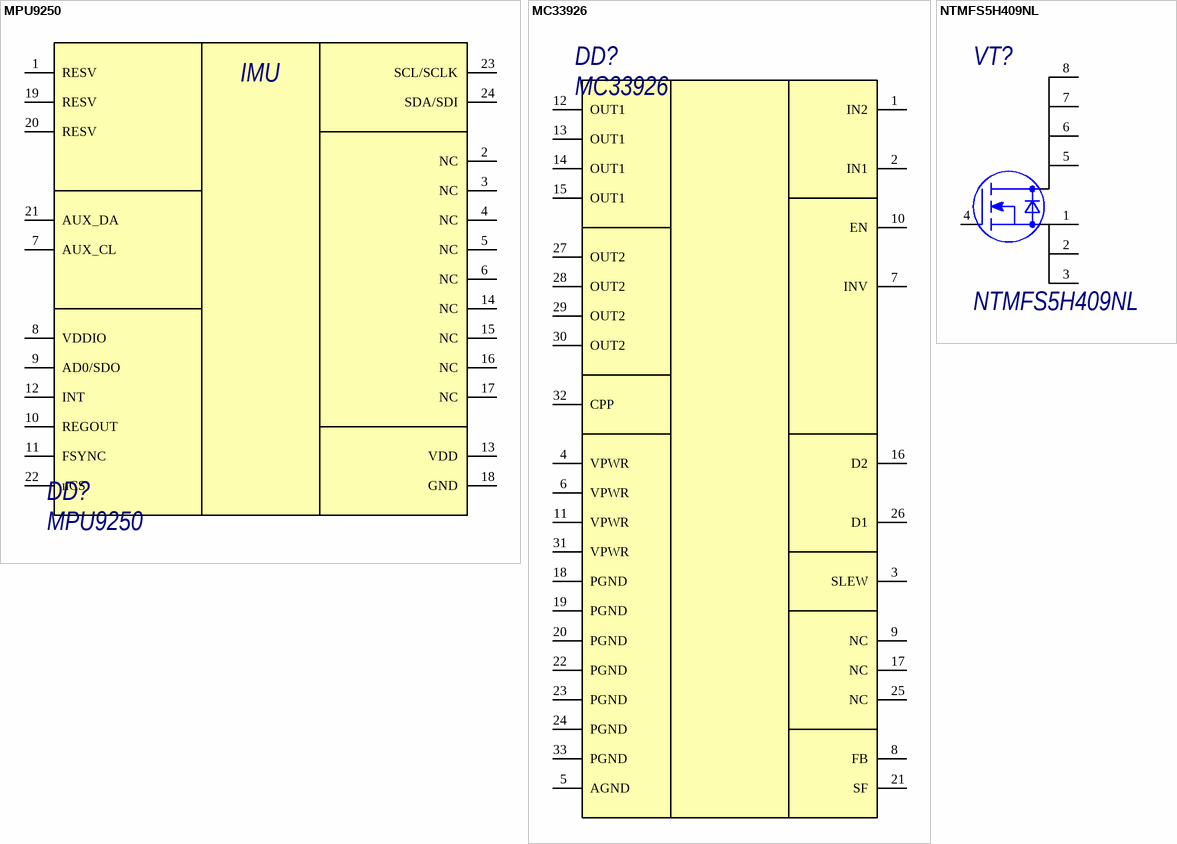
[diagram p7: symbols MPU9250 to NTMFS5H409NL]

## MPU9250
designator DD?
Name: MPU9250
footprint QFN-24 PAD (QFN, 24-Leads, Body 3,00x3,00mm, Pitch 0,40mm, Thermal Pad 1,62x1,54mm, IPC Medium Density)
pins: 1 RESV, 2 NC, 3 NC, 4 NC, 5 NC, 6 NC, 7 AUX_CL, 8 VDDIO, 9 AD0/SDO, 10 REGOUT, 11 FSYNC, 12 INT, 13 VDD, 14 NC, 15 NC, 16 NC, 17 NC, 18 GND, 19 RESV, 20 RESV, 21 AUX_DA, 22 nCS, 23 SCL/SCLK, 24 SDA/SDI
text: IMU

## MС33926
designator DD?
Драйвер мотора; Name: MС33926
footprint PQFN32
pins: 1 IN2, 2 IN1, 3 SLEW, 4 VPWR, 5 AGND, 6 VPWR, 7 INV, 8 FB, 9 NC, 10 EN, 11 VPWR, 12 OUT1, 13 OUT1, 14 OUT1, 15 OUT1, 16 D2, 17 NC, 18 PGND, 19 PGND, 20 PGND, 21 SF, 22 PGND, 23 PGND, 24 PGND, 25 NC, 26 D1, 27 OUT2, 28 OUT2, 29 OUT2, 30 OUT2, 31 VPWR, 32 CPP, 33 PGND

## NTMFS5H409NL
designator VT?
40 V, 1.1 m, 270 A, Single N−Channel; Name: NTMFS5H409NL
footprint DFN5
pins: 1 S, 2 S, 3 S, 4 G, 5 D, 6 D, 7 D, 8 D

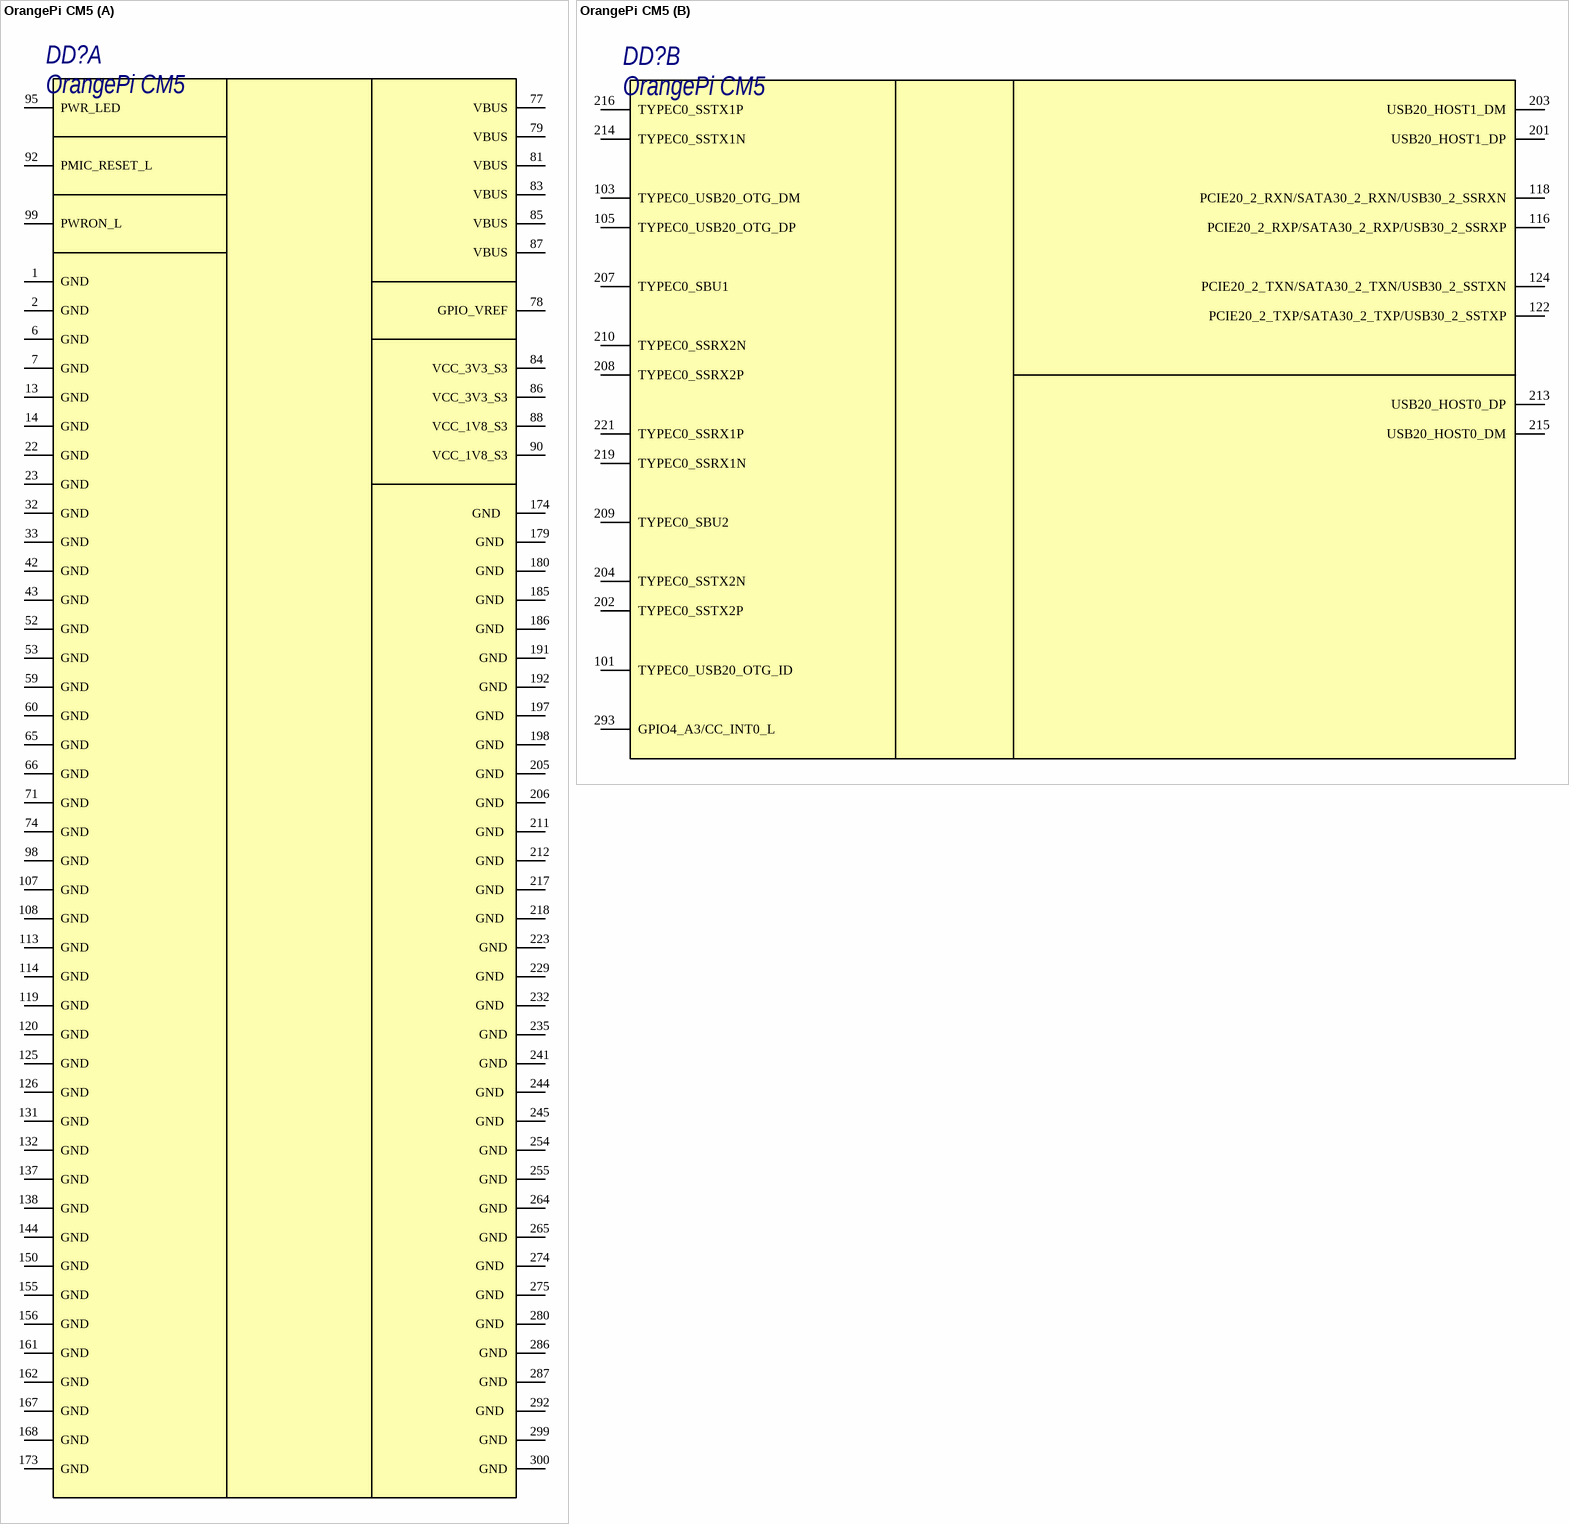
[diagram p8: symbol OrangePi CM5]

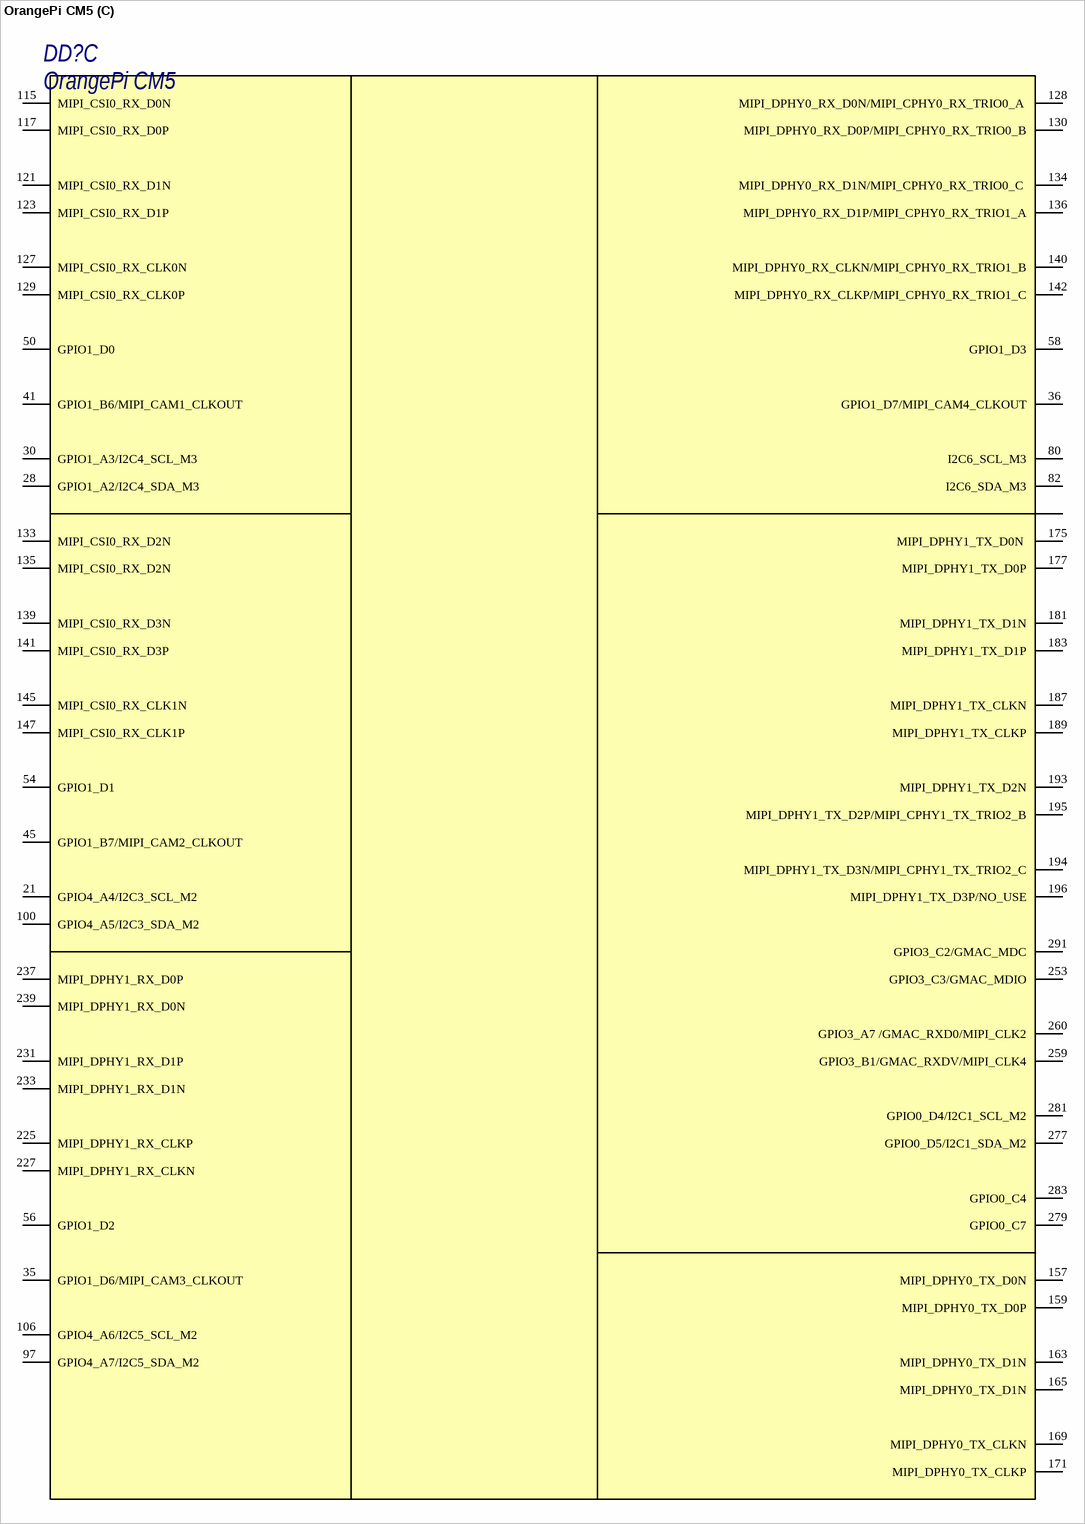
[diagram p9: symbol OrangePi CM5]

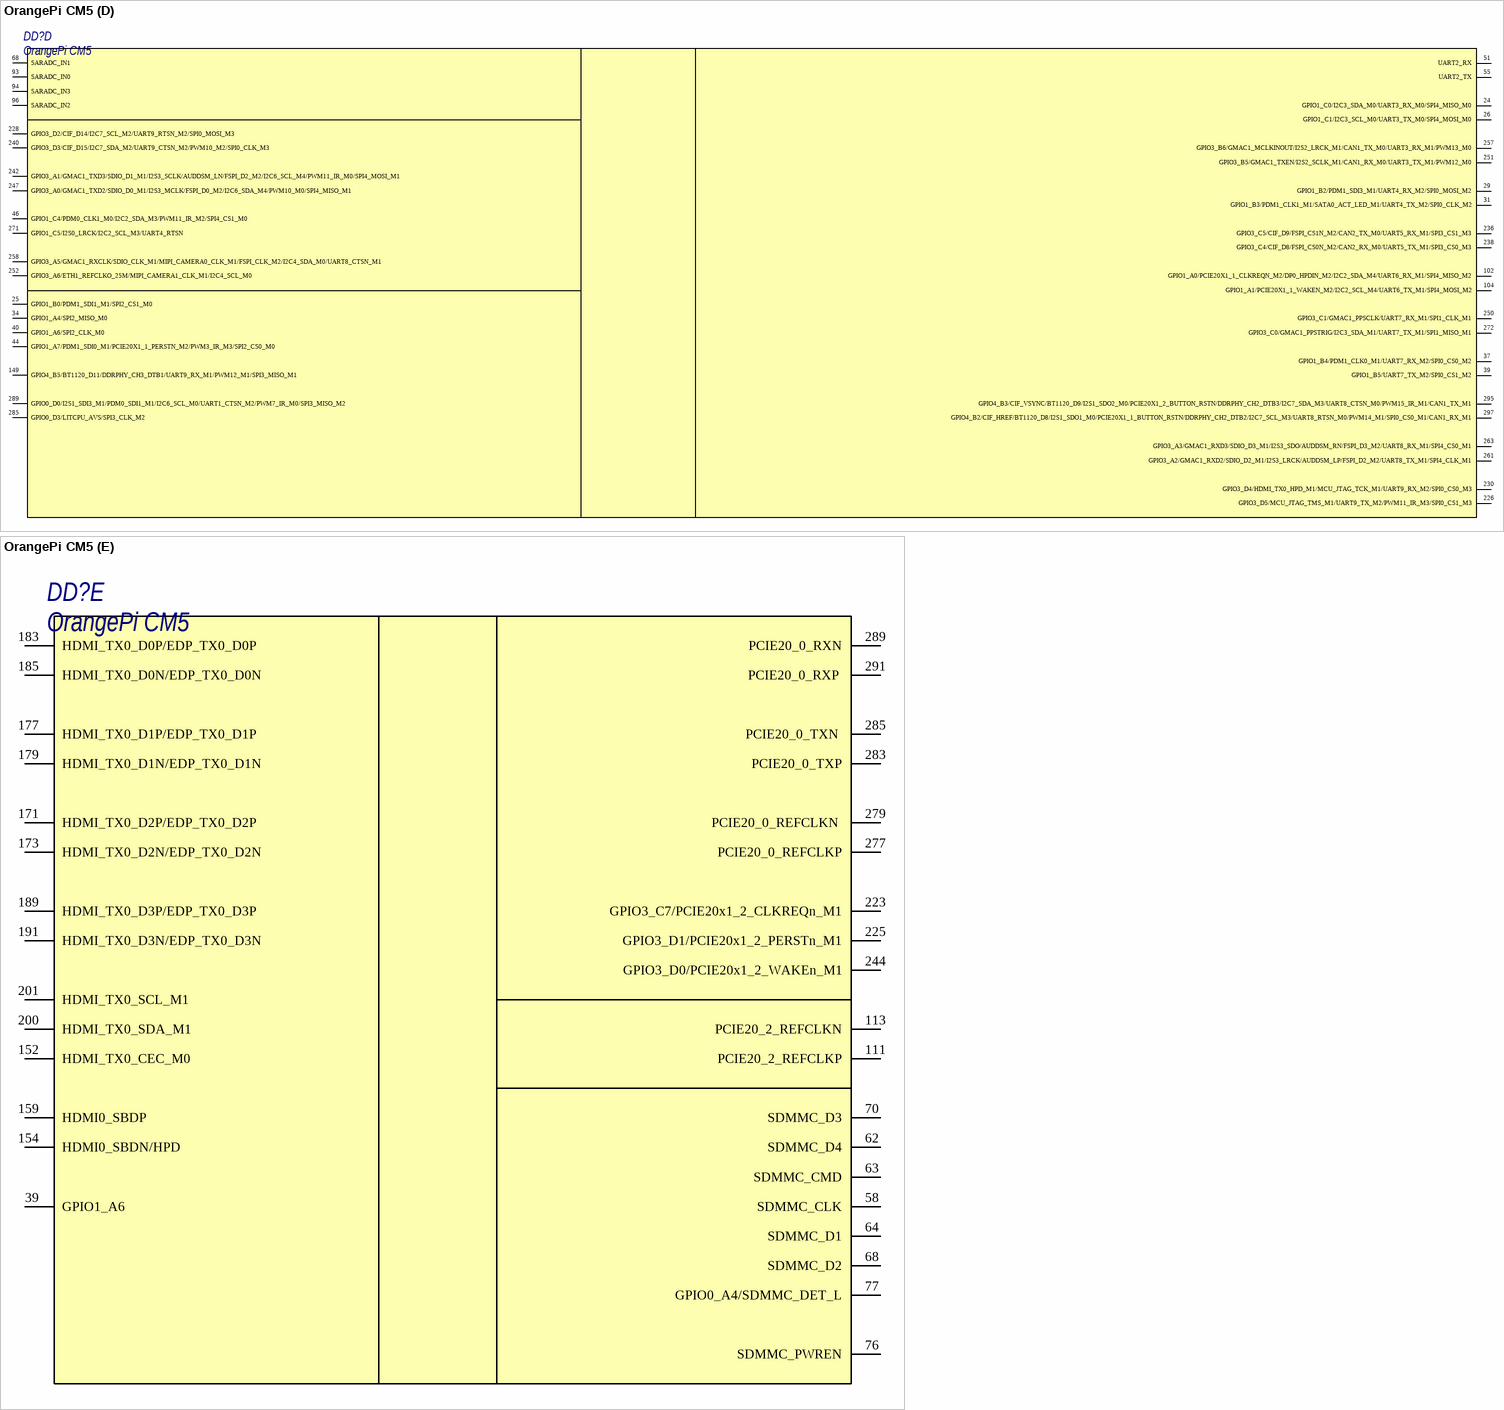
[diagram p10: symbol OrangePi CM5]

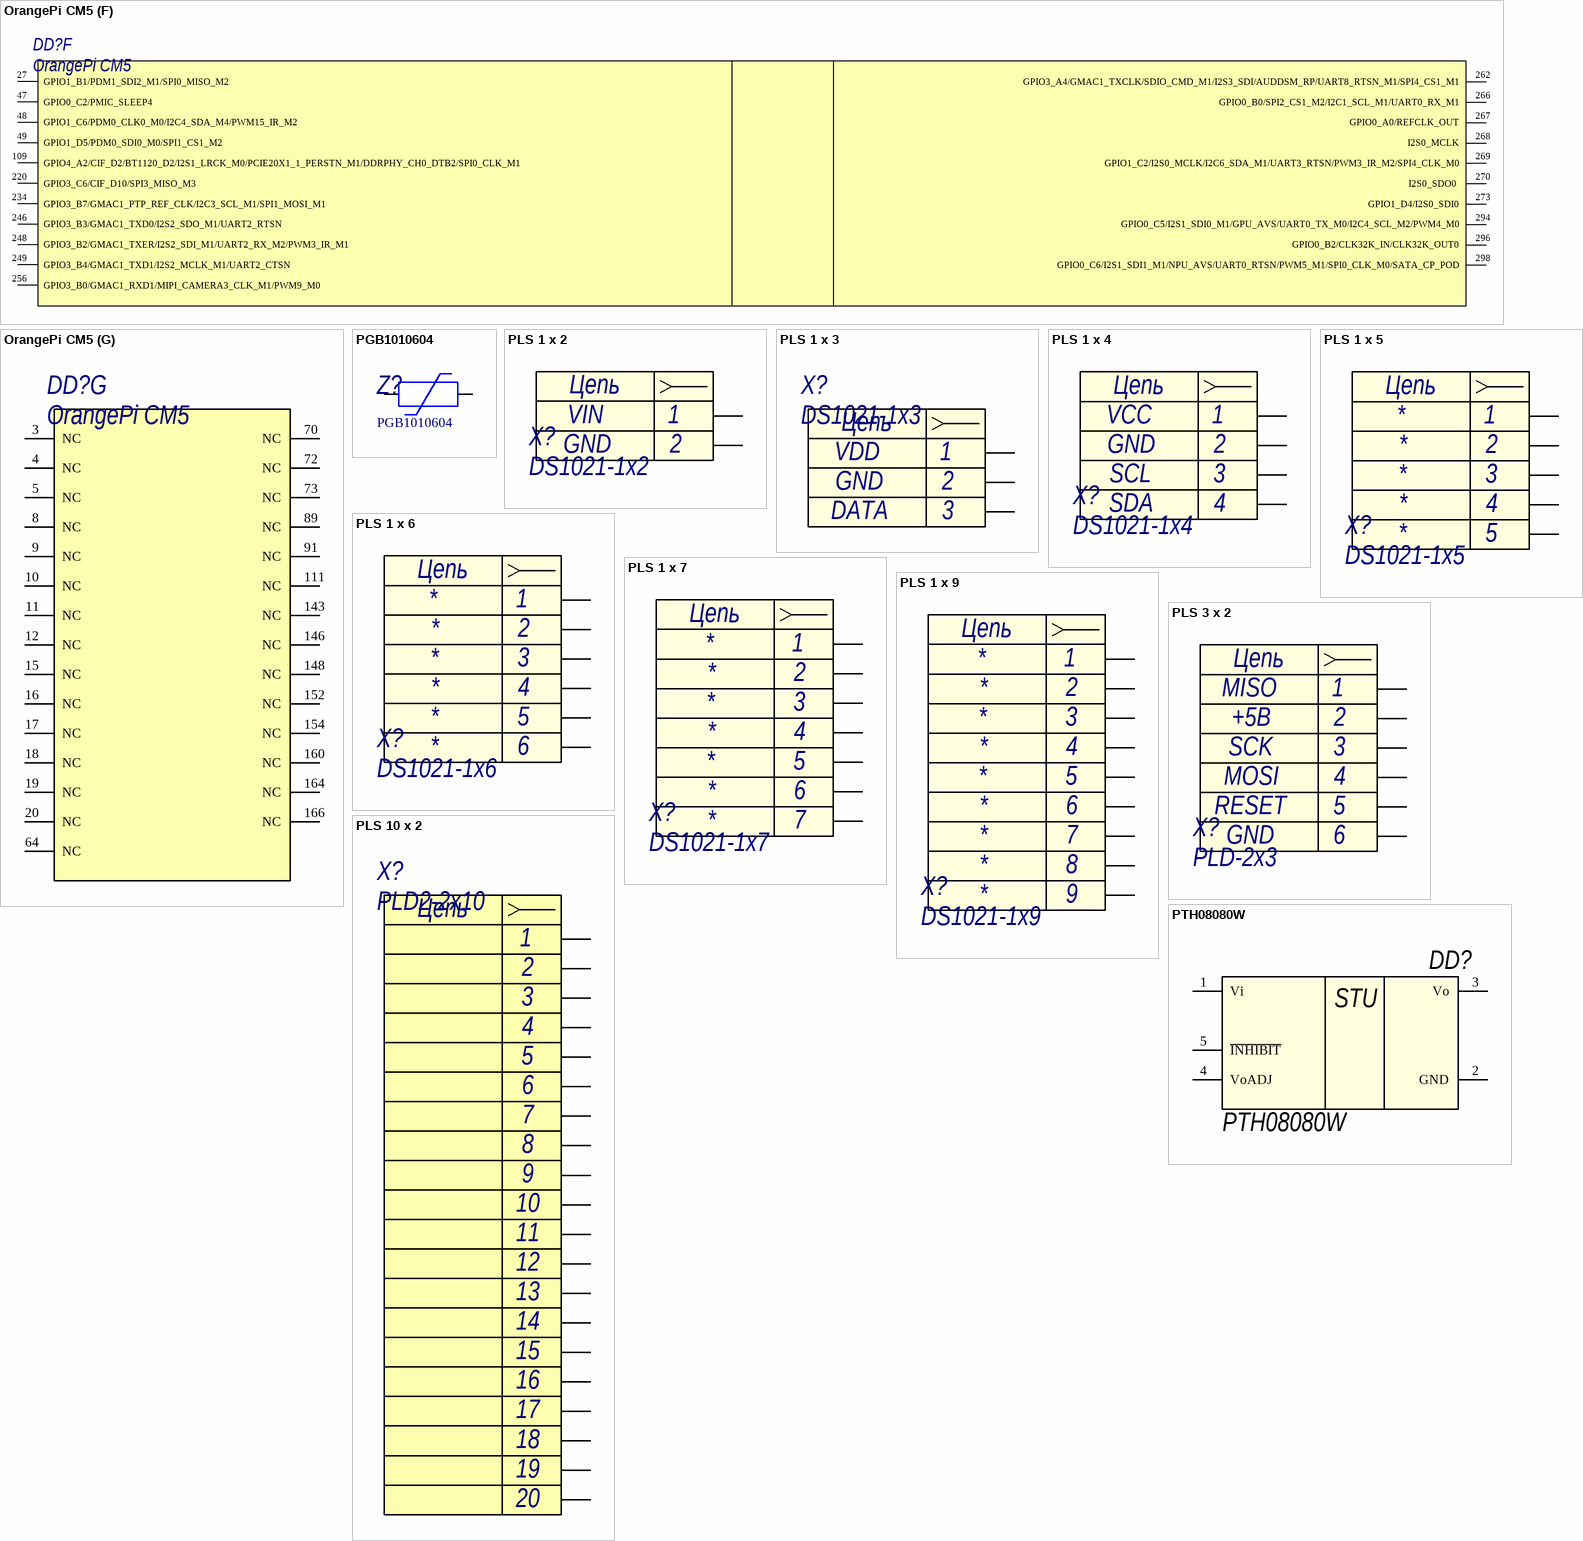
[diagram p11: symbols OrangePi CM5 to PTH08080W]

## OrangePi CM5
designator DD?
Name: OrangePi CM5
footprint OPI CM5 (Orange Pi CM5)
part A pins: 1 GND, 2 GND, 6 GND, 7 GND, 13 GND, 14 GND, 22 GND, 23 GND, 32 GND, 33 GND, 42 GND, 43 GND, 52 GND, 53 GND, 59 GND, 60 GND, 65 GND, 66 GND, 71 GND, 74 GND, 77 VBUS, 78 GPIO_VREF, 79 VBUS, 81 VBUS, 83 VBUS, 84 VCC_3V3_S3, 85 VBUS, 86 VCC_3V3_S3, 87 VBUS, 88 VCC_1V8_S3, 90 VCC_1V8_S3, 92 PMIC_RESET_L, 95 PWR_LED, 98 GND, 99 PWRON_L, 107 GND , 108 GND , 113 GND, 114 GND, 119 GND , 120 GND , 125 GND, 126 GND, 131 GND, 132 GND, 137 GND, 138 GND, 144 GND, 150 GND, 155 GND, 156 GND, 161 GND, 162 GND, 167 GND, 168 GND, 173 GND  , 174 GND  , 179 GND , 180 GND , 185 GND , 186 GND , 191 GND, 192 GND, 197 GND , 198 GND , 205 GND , 206 GND , 211 GND , 212 GND , 217 GND , 218 GND , 223 GND, 229 GND , 232 GND , 235 GND, 241 GND, 244 GND , 245 GND , 254 GND, 255 GND, 264 GND, 265 GND, 274 GND , 275 GND , 280 GND , 286 GND, 287 GND, 292 GND , 299 GND, 300 GND
part B pins: 101 TYPEC0_USB20_OTG_ID, 103 TYPEC0_USB20_OTG_DM, 105 TYPEC0_USB20_OTG_DP, 116 PCIE20_2_RXP/SATA30_2_RXP/USB30_2_SSRXP, 118 PCIE20_2_RXN/SATA30_2_RXN/USB30_2_SSRXN, 122 PCIE20_2_TXP/SATA30_2_TXP/USB30_2_SSTXP, 124 PCIE20_2_TXN/SATA30_2_TXN/USB30_2_SSTXN, 201 USB20_HOST1_DP, 202 TYPEC0_SSTX2P, 203 USB20_HOST1_DM, 204 TYPEC0_SSTX2N, 207 TYPEC0_SBU1, 208 TYPEC0_SSRX2P, 209 TYPEC0_SBU2, 210 TYPEC0_SSRX2N, 213 USB20_HOST0_DP, 214 TYPEC0_SSTX1N, 215 USB20_HOST0_DM, 216 TYPEC0_SSTX1P , 219 TYPEC0_SSRX1N, 221 TYPEC0_SSRX1P, 293 GPIO4_A3/CC_INT0_L
part C pins: 21 GPIO4_A4/I2C3_SCL_M2, 28 GPIO1_A2/I2C4_SDA_M3, 30 GPIO1_A3/I2C4_SCL_M3, 35 GPIO1_D6/MIPI_CAM3_CLKOUT, 36 GPIO1_D7/MIPI_CAM4_CLKOUT, 41 GPIO1_B6/MIPI_CAM1_CLKOUT, 45 GPIO1_B7/MIPI_CAM2_CLKOUT, 50 GPIO1_D0, 54 GPIO1_D1, 56 GPIO1_D2, 58 GPIO1_D3, 80 I2C6_SCL_M3, 82 I2C6_SDA_M3, 97 GPIO4_A7/I2C5_SDA_M2, 100 GPIO4_A5/I2C3_SDA_M2, 106 GPIO4_A6/I2C5_SCL_M2, 115 MIPI_CSI0_RX_D0N, 117 MIPI_CSI0_RX_D0P, 121 MIPI_CSI0_RX_D1N, 123 MIPI_CSI0_RX_D1P, 127 MIPI_CSI0_RX_CLK0N, 128 MIPI_DPHY0_RX_D0N/MIPI_CPHY0_RX_TRIO0_A , 129 MIPI_CSI0_RX_CLK0P, 130 MIPI_DPHY0_RX_D0P/MIPI_CPHY0_RX_TRIO0_B, 133 MIPI_CSI0_RX_D2N, 134 MIPI_DPHY0_RX_D1N/MIPI_CPHY0_RX_TRIO0_C , 135 MIPI_CSI0_RX_D2N, 136 MIPI_DPHY0_RX_D1P/MIPI_CPHY0_RX_TRIO1_A, 139 MIPI_CSI0_RX_D3N, 140 MIPI_DPHY0_RX_CLKN/MIPI_CPHY0_RX_TRIO1_B, 141 MIPI_CSI0_RX_D3P, 142 MIPI_DPHY0_RX_CLKP/MIPI_CPHY0_RX_TRIO1_C, 145 MIPI_CSI0_RX_CLK1N, 147 MIPI_CSI0_RX_CLK1P, 157 MIPI_DPHY0_TX_D0N, 159 MIPI_DPHY0_TX_D0P, 163 MIPI_DPHY0_TX_D1N, 165 MIPI_DPHY0_TX_D1N, 169 MIPI_DPHY0_TX_CLKN, 171 MIPI_DPHY0_TX_CLKP, 175 MIPI_DPHY1_TX_D0N , 177 MIPI_DPHY1_TX_D0P, 181 MIPI_DPHY1_TX_D1N, 183 MIPI_DPHY1_TX_D1P, 187 MIPI_DPHY1_TX_CLKN, 189 MIPI_DPHY1_TX_CLKP, 193 MIPI_DPHY1_TX_D2N, 194 MIPI_DPHY1_TX_D3N/MIPI_CPHY1_TX_TRIO2_C, 195 MIPI_DPHY1_TX_D2P/MIPI_CPHY1_TX_TRIO2_B, 196 MIPI_DPHY1_TX_D3P/NO_USE, 225 MIPI_DPHY1_RX_CLKP, 227 MIPI_DPHY1_RX_CLKN, 231 MIPI_DPHY1_RX_D1P , 233 MIPI_DPHY1_RX_D1N, 237 MIPI_DPHY1_RX_D0P, 239 MIPI_DPHY1_RX_D0N, 253 GPIO3_C3/GMAC_MDIO, 259 GPIO3_B1/GMAC_RXDV/MIPI_CLK4, 260 GPIO3_A7 /GMAC_RXD0/MIPI_CLK2, 277 GPIO0_D5/I2C1_SDA_M2, 279 GPIO0_C7, 281 GPIO0_D4/I2C1_SCL_M2, 283 GPIO0_C4, 291 GPIO3_C2/GMAC_MDC
part D pins: 24 GPIO1_C0/I2C3_SDA_M0/UART3_RX_M0/SPI4_MISO_M0, 25 GPIO1_B0/PDM1_SDI1_M1/SPI2_CS1_M0, 26 GPIO1_C1/I2C3_SCL_M0/UART3_TX_M0/SPI4_MOSI_M0, 29 GPIO1_B2/PDM1_SDI3_M1/UART4_RX_M2/SPI0_MOSI_M2, 31 GPIO1_B3/PDM1_CLK1_M1/SATA0_ACT_LED_M1/UART4_TX_M2/SPI0_CLK_M2, 34 GPIO1_A4/SPI2_MISO_M0, 37 GPIO1_B4/PDM1_CLK0_M1/UART7_RX_M2/SPI0_CS0_M2, 39 GPIO1_B5/UART7_TX_M2/SPI0_CS1_M2, 40 GPIO1_A6/SPI2_CLK_M0, 44 GPIO1_A7/PDM1_SDI0_M1/PCIE20X1_1_PERSTN_M2/PWM3_IR_M3/SPI2_CS0_M0, 46 GPIO1_C4/PDM0_CLK1_M0/I2C2_SDA_M3/PWM11_IR_M2/SPI4_CS1_M0, 51 UART2_RX, 55 UART2_TX, 68 SARADC_IN1, 93 SARADC_IN0, 94 SARADC_IN3, 96 SARADC_IN2, 102 GPIO1_A0/PCIE20X1_1_CLKREQN_M2/DP0_HPDIN_M2/I2C2_SDA_M4/UART6_RX_M1/SPI4_MISO_M2, 104 GPIO1_A1/PCIE20X1_1_WAKEN_M2/I2C2_SCL_M4/UART6_TX_M1/SPI4_MOSI_M2, 149 GPIO4_B5/BT1120_D11/DDRPHY_CH3_DTB1/UART9_RX_M1/PWM12_M1/SPI3_MISO_M1, 226 GPIO3_D5/MCU_JTAG_TMS_M1/UART9_TX_M2/PWM11_IR_M3/SPI0_CS1_M3, 228 GPIO3_D2/CIF_D14/I2C7_SCL_M2/UART9_RTSN_M2/SPI0_MOSI_M3, 230 GPIO3_D4/HDMI_TX0_HPD_M1/MCU_JTAG_TCK_M1/UART9_RX_M2/SPI0_CS0_M3, 236 GPIO3_C5/CIF_D9/FSPI_CS1N_M2/CAN2_TX_M0/UART5_RX_M1/SPI3_CS1_M3, 238 GPIO3_C4/CIF_D8/FSPI_CS0N_M2/CAN2_RX_M0/UART5_TX_M1/SPI3_CS0_M3, 240 GPIO3_D3/CIF_D15/I2C7_SDA_M2/UART9_CTSN_M2/PWM10_M2/SPI0_CLK_M3, 242 GPIO3_A1/GMAC1_TXD3/SDIO_D1_M1/I2S3_SCLK/AUDDSM_LN/FSPI_D2_M2/I2C6_SCL_M4/PWM11_IR_M0/SPI4_MOSI_M1, 247 GPIO3_A0/GMAC1_TXD2/SDIO_D0_M1/I2S3_MCLK/FSPI_D0_M2/I2C6_SDA_M4/PWM10_M0/SPI4_MISO_M1, 250 GPIO3_C1/GMAC1_PPSCLK/UART7_RX_M1/SPI1_CLK_M1, 251 GPIO3_B5/GMAC1_TXEN/I2S2_SCLK_M1/CAN1_RX_M0/UART3_TX_M1/PWM12_M0, 252 GPIO3_A6/ETH1_REFCLKO_25M/MIPI_CAMERA1_CLK_M1/I2C4_SCL_M0, 257 GPIO3_B6/GMAC1_MCLKINOUT/I2S2_LRCK_M1/CAN1_TX_M0/UART3_RX_M1/PWM13_M0, 258 GPIO3_A5/GMAC1_RXCLK/SDIO_CLK_M1/MIPI_CAMERA0_CLK_M1/FSPI_CLK_M2/I2C4_SDA_M0/UART8_CTSN_M1, 261 GPIO3_A2/GMAC1_RXD2/SDIO_D2_M1/I2S3_LRCK/AUDDSM_LP/FSPI_D2_M2/UART8_TX_M1/SPI4_CLK_M1, 263 GPIO3_A3/GMAC1_RXD3/SDIO_D3_M1/I2S3_SDO/AUDDSM_RN/FSPI_D3_M2/UART8_RX_M1/SPI4_CS0_M1, 271 GPIO1_C5/I2S0_LRCK/I2C2_SCL_M3/UART4_RTSN, 272 GPIO3_C0/GMAC1_PPSTRIG/I2C3_SDA_M1/UART7_TX_M1/SPI1_MISO_M1, 285 GPIO0_D3/LITCPU_AVS/SPI3_CLK_M2, 289 GPIO0_D0/I2S1_SDI3_M1/PDM0_SDI1_M1/I2C6_SCL_M0/UART1_CTSN_M2/PWM7_IR_M0/SPI3_MISO_M2, 295 GPIO4_B3/CIF_VSYNC/BT1120_D9/I2S1_SDO2_M0/PCIE20X1_2_BUTTON_RSTN/DDRPHY_CH2_DTB3/I2C7_SDA_M3/UART8_CTSN_M0/PWM15_IR_M1/CAN1_TX_M1, 297 GPIO4_B2/CIF_HREF/BT1120_D8/I2S1_SDO1_M0/PCIE20X1_1_BUTTON_RSTN/DDRPHY_CH2_DTB2/I2C7_SCL_M3/UART8_RTSN_M0/PWM14_M1/SPI0_CS0_M1/CAN1_RX_M1
part E pins: 39 GPIO1_A6, 58 SDMMC_CLK, 62 SDMMC_D4, 63 SDMMC_CMD, 64 SDMMC_D1, 68 SDMMC_D2, 70 SDMMC_D3, 76 SDMMC_PWREN, 77 GPIO0_A4/SDMMC_DET_L, 111 PCIE20_2_REFCLKP, 113 PCIE20_2_REFCLKN, 152 HDMI_TX0_CEC_M0 , 154 HDMI0_SBDN/HPD, 159 HDMI0_SBDP , 171 HDMI_TX0_D2P/EDP_TX0_D2P , 173 HDMI_TX0_D2N/EDP_TX0_D2N , 177 HDMI_TX0_D1P/EDP_TX0_D1P, 179 HDMI_TX0_D1N/EDP_TX0_D1N , 183 HDMI_TX0_D0P/EDP_TX0_D0P, 185 HDMI_TX0_D0N/EDP_TX0_D0N , 189 HDMI_TX0_D3P/EDP_TX0_D3P, 191 HDMI_TX0_D3N/EDP_TX0_D3N, 200 HDMI_TX0_SDA_M1, 201 HDMI_TX0_SCL_M1, 223 GPIO3_C7/PCIE20x1_2_CLKREQn_M1, 225 GPIO3_D1/PCIE20x1_2_PERSTn_M1, 244 GPIO3_D0/PCIE20x1_2_WAKEn_M1, 277 PCIE20_0_REFCLKP, 279 PCIE20_0_REFCLKN , 283 PCIE20_0_TXP, 285 PCIE20_0_TXN , 289 PCIE20_0_RXN, 291 PCIE20_0_RXP 
part F pins: 27 GPIO1_B1/PDM1_SDI2_M1/SPI0_MISO_M2, 47 GPIO0_C2/PMIC_SLEEP4, 48 GPIO1_C6/PDM0_CLK0_M0/I2C4_SDA_M4/PWM15_IR_M2, 49 GPIO1_D5/PDM0_SDI0_M0/SPI1_CS1_M2, 109 GPIO4_A2/CIF_D2/BT1120_D2/I2S1_LRCK_M0/PCIE20X1_1_PERSTN_M1/DDRPHY_CH0_DTB2/SPI0_CLK_M1, 220 GPIO3_C6/CIF_D10/SPI3_MISO_M3, 234 GPIO3_B7/GMAC1_PTP_REF_CLK/I2C3_SCL_M1/SPI1_MOSI_M1, 246 GPIO3_B3/GMAC1_TXD0/I2S2_SDO_M1/UART2_RTSN, 248 GPIO3_B2/GMAC1_TXER/I2S2_SDI_M1/UART2_RX_M2/PWM3_IR_M1, 249 GPIO3_B4/GMAC1_TXD1/I2S2_MCLK_M1/UART2_CTSN, 256 GPIO3_B0/GMAC1_RXD1/MIPI_CAMERA3_CLK_M1/PWM9_M0, 262 GPIO3_A4/GMAC1_TXCLK/SDIO_CMD_M1/I2S3_SDI/AUDDSM_RP/UART8_RTSN_M1/SPI4_CS1_M1, 266 GPIO0_B0/SPI2_CS1_M2/I2C1_SCL_M1/UART0_RX_M1, 267 GPIO0_A0/REFCLK_OUT, 268 I2S0_MCLK, 269 GPIO1_C2/I2S0_MCLK/I2C6_SDA_M1/UART3_RTSN/PWM3_IR_M2/SPI4_CLK_M0, 270 I2S0_SDO0 , 273 GPIO1_D4/I2S0_SDI0, 294 GPIO0_C5/I2S1_SDI0_M1/GPU_AVS/UART0_TX_M0/I2C4_SCL_M2/PWM4_M0, 296 GPIO0_B2/CLK32K_IN/CLK32K_OUT0, 298 GPIO0_C6/I2S1_SDI1_M1/NPU_AVS/UART0_RTSN/PWM5_M1/SPI0_CLK_M0/SATA_CP_POD
part G pins: 3 NC, 4 NC, 5 NC, 8 NC, 9 NC, 10 NC, 11 NC, 12 NC, 15 NC, 16 NC, 17 NC, 18 NC, 19 NC, 20 NC, 64 NC, 70 NC, 72 NC, 73 NC, 89 NC, 91 NC, 111 NC, 143 NC, 146 NC, 148 NC, 152 NC, 154 NC, 160 NC, 164 NC, 166 NC

## PGB1010604
designator Z?
Name: PGB1010604
footprint защитный диод (PGB1010604)
pins: 1, 2

## PLS 1 x 2
designator X?, comment DS1021-1x2
Contact_1: VIN; Contact_2: GND; Name: DS1021-1x2
pins: 1, 2
text: Цепь

## PLS 1 x 3
designator X?, comment DS1021-1x3
Contact_1: VDD; Contact_2: GND; Contact_3: DATA; Name: DS1021-1x3
footprint PLS_1x3 empty
pins: 1, 2, 3
text: Цепь

## PLS 1 x 4
designator X?, comment DS1021-1x4
Contact_1: VCC; Contact_2: GND; Contact_3: SCL; Contact_4: SDA; Name: DS1021-1x4
footprint PLS_1x4 - emty
pins: 1, 2, 3, 4
text: Цепь

## PLS 1 x 5
designator X?, comment DS1021-1x5
Contact_1: *; Contact_2: *; Contact_3: *; Contact_4: *; Contact_5: *; Name: DS1021-1x5
footprint PLS_1x5 - emty
footprint PLS_1x5 - with contour
pins: 1, 2, 3, 4, 5
text: Цепь

## PLS 1 x 6
designator X?, comment DS1021-1x6
Contact_1: *; Contact_2: *; Contact_3: *; Contact_4: *; Contact_5: *; Contact_6: *; Name: DS1021-1x6
footprint PLS_1x6 - emty
footprint PLS_1x6 - with contour
pins: 1, 2, 3, 4, 5, 6
text: Цепь

## PLS 1 x 7
designator X?, comment DS1021-1x7
Contact_1: *; Contact_2: *; Contact_3: *; Contact_4: *; Contact_5: *; Contact_6: *; Contact_7: *; Name: DS1021-1x7
footprint PLS_1x7 - emty
footprint PLS_1x7 - with contour
pins: 1, 2, 3, 4, 5, 6, 7
text: Цепь

## PLS 1 x 9
designator X?, comment DS1021-1x9
Contact_1: *; Contact_2: *; Contact_3: *; Contact_4: *; Contact_5: *; Contact_6: *; Contact_7: *; Contact_8: *; Contact_9: *; Name: DS1021-1x9
footprint PLS_1x9 - emty
footprint PLS_1x9 - with contour
pins: 1, 2, 3, 4, 5, 6, 7, 8, 9
text: Цепь

## PLS 3 x 2
designator X?, comment PLD-2x3
Contact_1: MISO; Contact_2: +5В; Contact_3: SCK; Contact_4: MOSI; Contact_5: RESET; Contact_6: GND; Name: PLD-2x3
footprint PLS 3 x 2
footprint PLS_2,0 3 x 2 (2)
pins: 1, 2, 3, 4, 5, 6
text: Цепь

## PLS 10 x 2
designator X?, comment PLD2-2x10
Name: PLD2-2x10
footprint PLS 2.00 10x2 SMT (PLS с шагом 2мм 10x2 SMT монтажа)
footprint PLS 2.00 10x2 (сквозной PLS 2.00 10x2)
pins: 1, 2, 3, 4, 5, 6, 7, 8, 9, 10, 11, 12, 13, 14, 15, 16, 17, 18, 19, 20
text: Цепь

## PTH08080W
designator DD?
DC/DC, 2.5А; Name: PTH08080W
footprint PTH08080W
pins: 1 Vi, 2 GND, 3 Vo, 4 VoADJ, 5 ~{INHIBIT}
text: STU

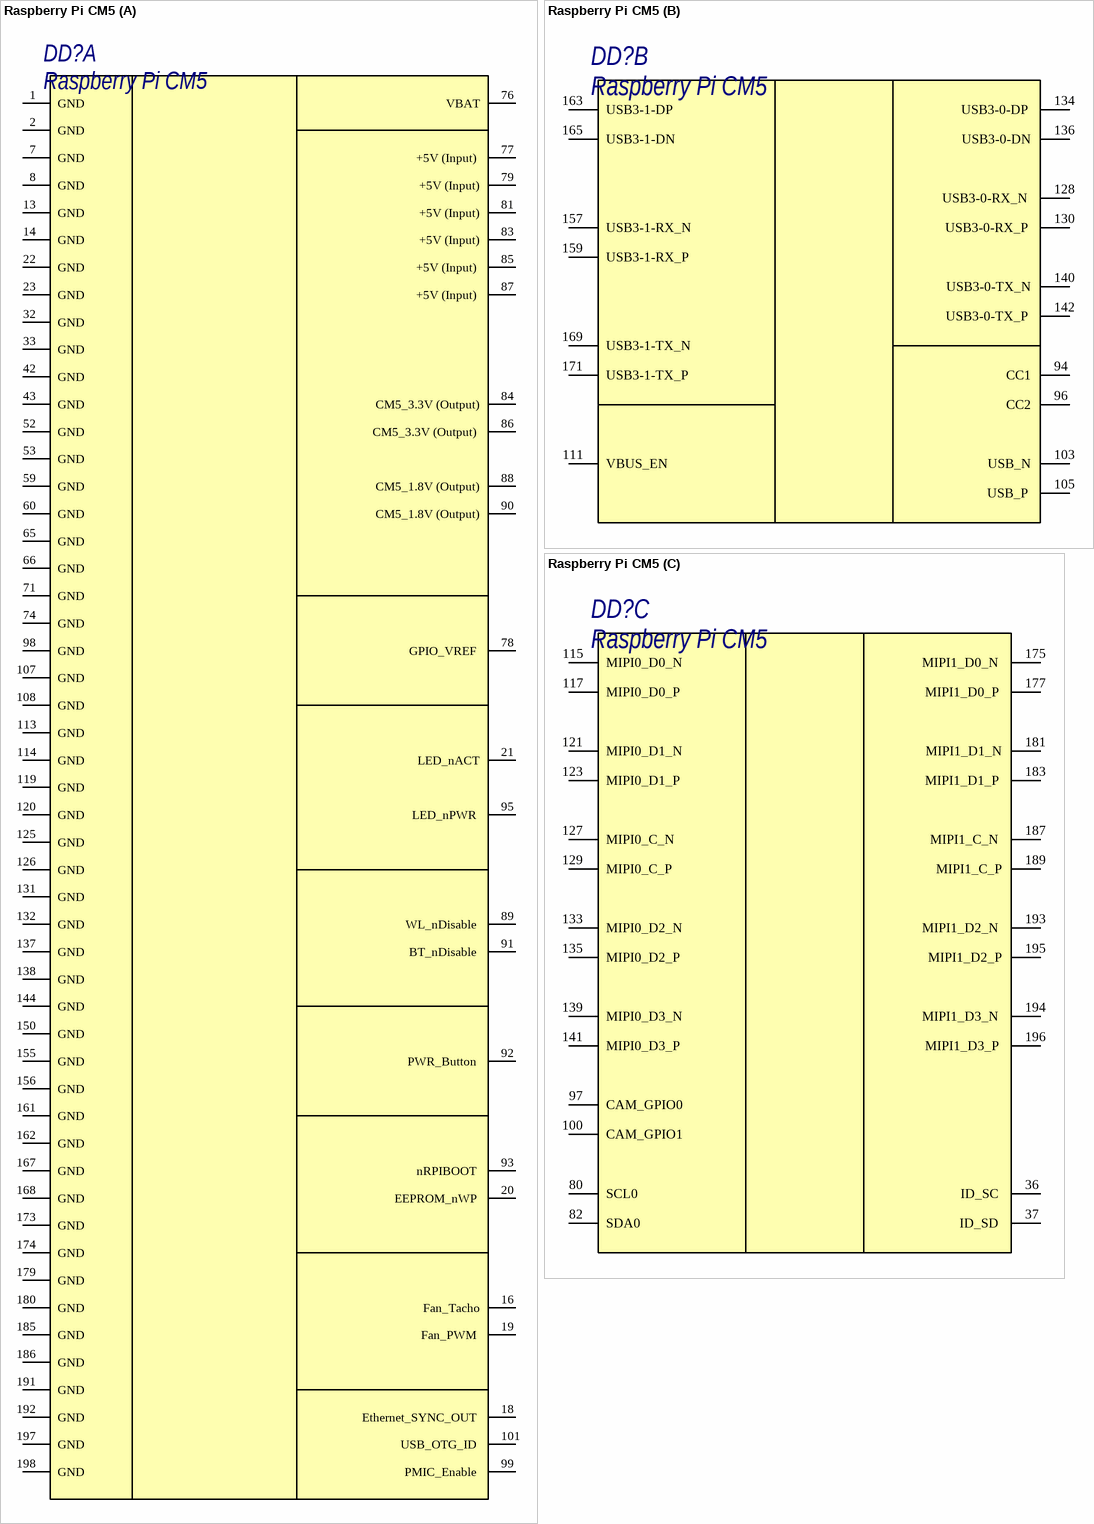
[diagram p12: symbol Raspberry Pi CM5]

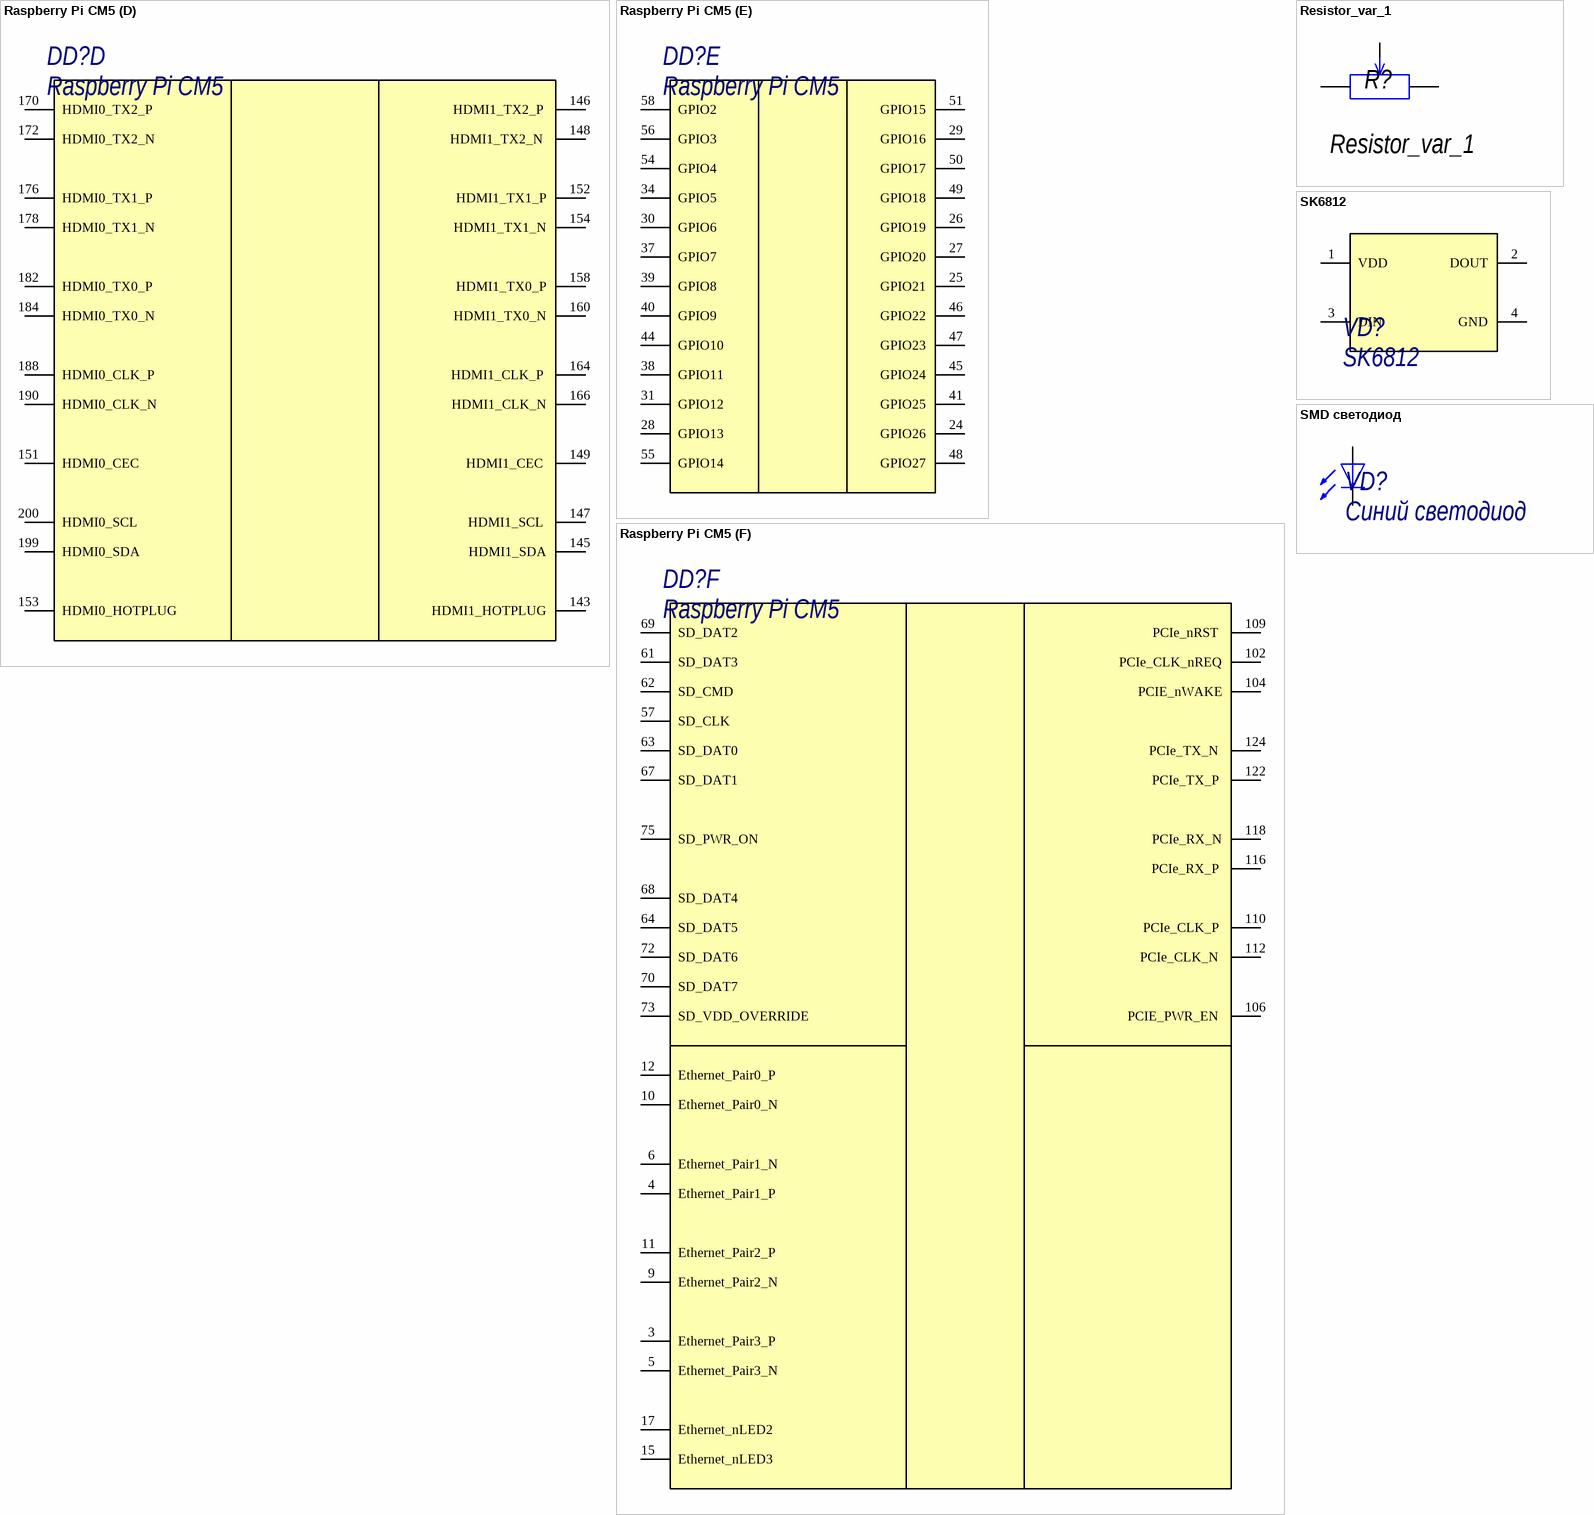
[diagram p13: symbols Raspberry Pi CM5 to SMD светодиод]

## Raspberry Pi CM5
designator DD?
Raspberry Pi Compute Module 5; Name: Raspberry Pi CM5
footprint raspberry_pi_compute_module_4_header
part A pins: 1 GND, 2 GND, 7 GND, 8 GND, 13 GND , 14 GND , 16 Fan_Tacho, 18 Ethernet_SYNC_OUT , 19 Fan_PWM , 20 EEPROM_nWP , 21 LED_nACT, 22 GND , 23 GND , 32 GND, 33 GND, 42 GND , 43 GND , 52 GND, 53 GND, 59 GND, 60 GND, 65 GND , 66 GND , 71 GND, 74 GND, 76 VBAT, 77 +5V (Input) , 78 GPIO_VREF , 79 +5V (Input), 81 +5V (Input), 83 +5V (Input), 84 CM5_3.3V (Output), 85 +5V (Input) , 86 CM5_3.3V (Output) , 87 +5V (Input) , 88 CM5_1.8V (Output), 89 WL_nDisable , 90 CM5_1.8V (Output), 91 BT_nDisable , 92 PWR_Button , 93 nRPIBOOT , 95 LED_nPWR , 98 GND, 99 PMIC_Enable , 101 USB_OTG_ID , 107 GND , 108 GND , 113 GND , 114 GND , 119 GND , 120 GND , 125 GND, 126 GND, 131 GND , 132 GND , 137 GND , 138 GND , 144 GND , 150 GND , 155 GND , 156 GND , 161 GND , 162 GND , 167 GND , 168 GND , 173 GND , 174 GND , 179 GND, 180 GND, 185 GND , 186 GND , 191 GND , 192 GND , 197 GND , 198 GND 
part B pins: 94 CC1, 96 CC2, 103 USB_N, 105 USB_P , 111 VBUS_EN, 128 USB3-0-RX_N , 130 USB3-0-RX_P , 134 USB3-0-DP , 136 USB3-0-DN, 140 USB3-0-TX_N, 142 USB3-0-TX_P , 157 USB3-1-RX_N , 159 USB3-1-RX_P , 163 USB3-1-DP , 165 USB3-1-DN, 169 USB3-1-TX_N , 171 USB3-1-TX_P 
part C pins: 36 ID_SC , 37 ID_SD , 80 SCL0 , 82 SDA0 , 97 CAM_GPIO0, 100 CAM_GPIO1 , 115 MIPI0_D0_N , 117 MIPI0_D0_P , 121 MIPI0_D1_N , 123 MIPI0_D1_P , 127 MIPI0_C_N, 129 MIPI0_C_P , 133 MIPI0_D2_N , 135 MIPI0_D2_P , 139 MIPI0_D3_N , 141 MIPI0_D3_P , 175 MIPI1_D0_N , 177 MIPI1_D0_P , 181 MIPI1_D1_N, 183 MIPI1_D1_P , 187  MIPI1_C_N , 189 MIPI1_C_P, 193 MIPI1_D2_N , 194 MIPI1_D3_N , 195 MIPI1_D2_P, 196 MIPI1_D3_P 
part D pins: 143 HDMI1_HOTPLUG, 145 HDMI1_SDA, 146 HDMI1_TX2_P , 147 HDMI1_SCL , 148 HDMI1_TX2_N , 149 HDMI1_CEC , 151 HDMI0_CEC , 152 HDMI1_TX1_P, 153 HDMI0_HOTPLUG, 154 HDMI1_TX1_N, 158 HDMI1_TX0_P, 160 HDMI1_TX0_N, 164 HDMI1_CLK_P , 166 HDMI1_CLK_N, 170 HDMI0_TX2_P, 172 HDMI0_TX2_N, 176 HDMI0_TX1_P , 178 HDMI0_TX1_N , 182 HDMI0_TX0_P, 184 HDMI0_TX0_N , 188 HDMI0_CLK_P , 190 HDMI0_CLK_N, 199 HDMI0_SDA , 200 HDMI0_SCL 
part E pins: 24 GPIO26, 25 GPIO21, 26 GPIO19, 27 GPIO20, 28 GPIO13, 29 GPIO16, 30 GPIO6, 31 GPIO12, 34 GPIO5, 37 GPIO7, 38 GPIO11, 39 GPIO8, 40 GPIO9, 41 GPIO25, 44 GPIO10 , 45 GPIO24, 46 GPIO22, 47 GPIO23, 48 GPIO27, 49 GPIO18, 50 GPIO17, 51 GPIO15, 54 GPIO4, 55 GPIO14, 56 GPIO3, 58 GPIO2
part F pins: 3 Ethernet_Pair3_P , 4 Ethernet_Pair1_P , 5 Ethernet_Pair3_N , 6 Ethernet_Pair1_N , 9 Ethernet_Pair2_N , 10 Ethernet_Pair0_N , 11 Ethernet_Pair2_P , 12 Ethernet_Pair0_P , 15 Ethernet_nLED3 , 17 Ethernet_nLED2 , 57 SD_CLK , 61 SD_DAT3 , 62 SD_CMD , 63 SD_DAT0 , 64 SD_DAT5 , 67 SD_DAT1 , 68 SD_DAT4, 69 SD_DAT2 , 70 SD_DAT7, 72 SD_DAT6, 73 SD_VDD_OVERRIDE , 75 SD_PWR_ON , 102 PCIe_CLK_nREQ, 104 PCIE_nWAKE, 106 PCIE_PWR_EN , 109 PCIe_nRST , 110 PCIe_CLK_P , 112 PCIe_CLK_N , 116 PCIe_RX_P , 118 PCIe_RX_N, 122 PCIe_TX_P , 124 PCIe_TX_N 

## Resistor_var_1
designator R?
Value: 10 к; Наименование: Resistor_var_1
footprint 3296Y-1-103LF (Footprint not found)
pins: 1, 2, 3

## SK6812
designator VD?
светодиод с пиксельной адресацией SK6812 4020; Name: SK6812
footprint 3535 (sk6812-mini)
pins: 1 VDD, 2 DOUT, 3 DIN, 4 GND

## SMD светодиод
designator VD?, comment Синий светодиод
Светодтод SMD; Name: Синий светодиод
footprint 0603 - led
footprint 0805 - led (Chip Resistor, 2-Leads, Body 2,10x1,30mm, IPC Medium Density)
footprint 0603 - led - no point
pins: 1 A, 2 K

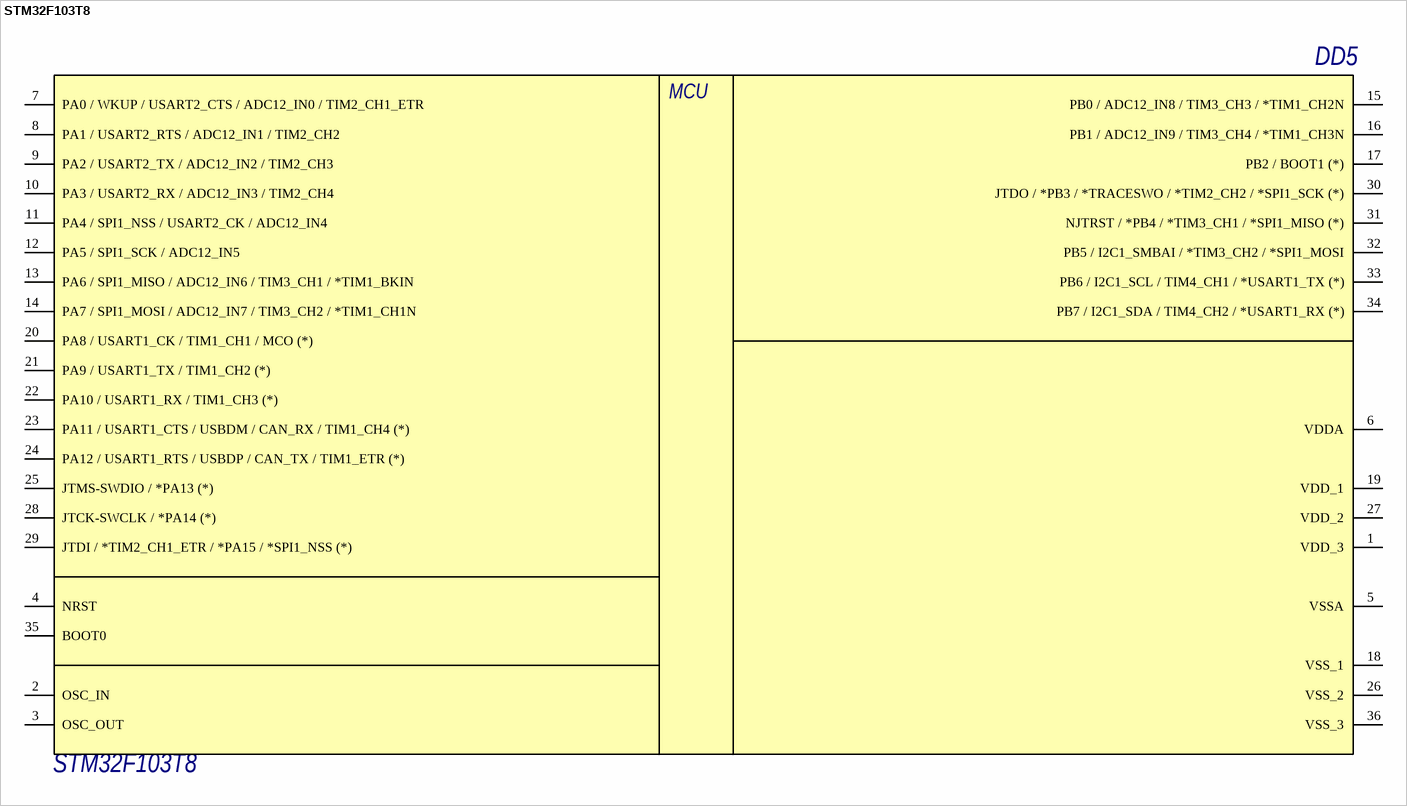
[diagram p14: symbol STM32F103T8]

## STM32F103T8
designator DD5
Микроконтроллер; Name: STM32F103T8
footprint VFQFPN36
pins: 1 VDD_3, 2 OSC_IN, 3 OSC_OUT, 4 NRST, 5 VSSA, 6 VDDA, 7 PA0 / WKUP / USART2_CTS / ADC12_IN0 / TIM2_CH1_ETR, 8 PA1 / USART2_RTS / ADC12_IN1 / TIM2_CH2, 9 PA2 / USART2_TX / ADC12_IN2 / TIM2_CH3, 10 PA3 / USART2_RX / ADC12_IN3 / TIM2_CH4, 11 PA4 / SPI1_NSS / USART2_CK / ADC12_IN4, 12 PA5 / SPI1_SCK / ADC12_IN5, 13 PA6 / SPI1_MISO / ADC12_IN6 / TIM3_CH1 / *TIM1_BKIN, 14 PA7 / SPI1_MOSI / ADC12_IN7 / TIM3_CH2 / *TIM1_CH1N, 15 PB0 / ADC12_IN8 / TIM3_CH3 / *TIM1_CH2N, 16 PB1 / ADC12_IN9 / TIM3_CH4 / *TIM1_CH3N, 17 PB2 / BOOT1 (*), 18 VSS_1, 19 VDD_1, 20 PA8 / USART1_CK / TIM1_CH1 / MCO (*), 21 PA9 / USART1_TX / TIM1_CH2 (*), 22 PA10 / USART1_RX / TIM1_CH3 (*), 23 PA11 / USART1_CTS / USBDM / CAN_RX / TIM1_CH4 (*), 24 PA12 / USART1_RTS / USBDP / CAN_TX / TIM1_ETR (*), 25 JTMS-SWDIO / *PA13 (*), 26 VSS_2, 27 VDD_2, 28 JTCK-SWCLK / *PA14 (*), 29 JTDI / *TIM2_CH1_ETR / *PA15 / *SPI1_NSS (*), 30 JTDO / *PB3 / *TRACESWO / *TIM2_CH2 / *SPI1_SCK (*), 31 NJTRST / *PB4 / *TIM3_CH1 / *SPI1_MISO (*), 32 PB5 / I2C1_SMBAI / *TIM3_CH2 / *SPI1_MOSI, 33 PB6 / I2C1_SCL / TIM4_CH1 / *USART1_TX (*), 34 PB7 / I2C1_SDA / TIM4_CH2 / *USART1_RX (*), 35 BOOT0, 36 VSS_3
text: MCU

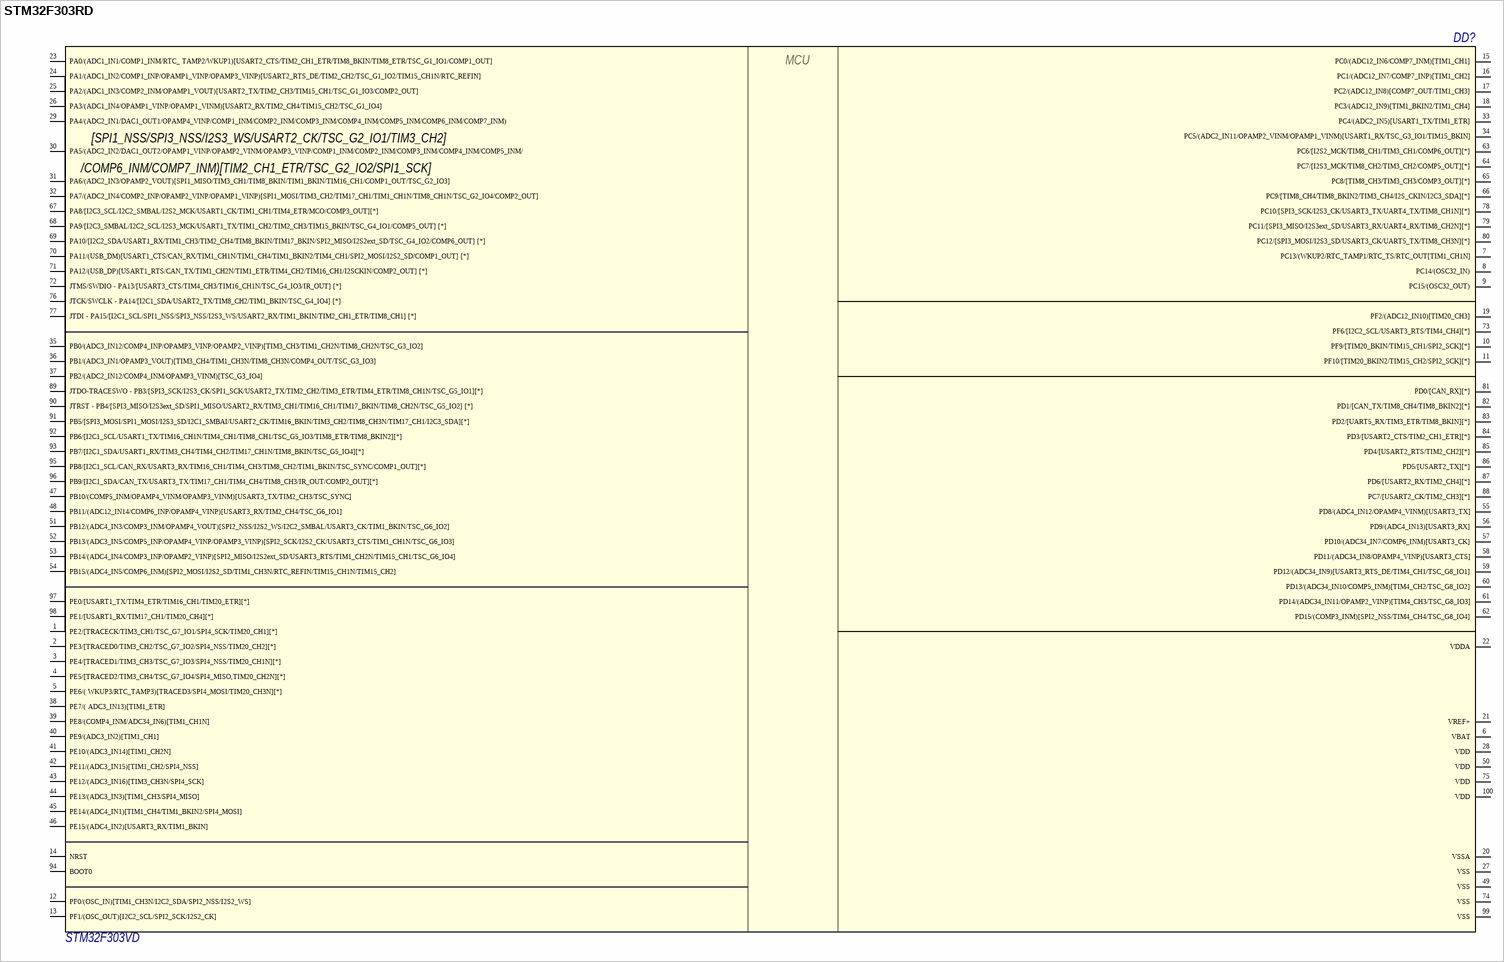
[diagram p15: symbol STM32F303RD]

## STM32F303RD
designator DD?, comment STM32F303VD
Микроконтроллер; Name: STM32F303VD
footprint LQFP100
pins: 1 PE2/[TRACECK/TIM3_CH1/TSC_G7_IO1/SPI4_SCK/TIM20_CH1][*], 2 PE3/[TRACED0/TIM3_CH2/TSC_G7_IO2/SPI4_NSS/TIM20_CH2][*], 3 PE4/[TRACED1/TIM3_CH3/TSC_G7_IO3/SPI4_NSS/TIM20_CH1N][*], 4 PE5/[TRACED2/TIM3_CH4/TSC_G7_IO4/SPI4_MISO,TIM20_CH2N][*], 5 PE6/( WKUP3/RTC_TAMP3)[TRACED3/SPI4_MOSI/TIM20_CH3N][*], 6 VBAT, 7 PC13/(WKUP2/RTC_TAMP1/RTC_TS/RTC_OUT[TIM1_CH1N], 8 PC14/(OSC32_IN), 9 PC15/(OSC32_OUT), 10 PF9/[TIM20_BKIN/TIM15_CH1/SPI2_SCK][*], 11 PF10/[TIM20_BKIN2/TIM15_CH2/SPI2_SCK][*], 12 PF0/(OSC_IN)[TIM1_CH3N/I2C2_SDA/SPI2_NSS/I2S2_WS], 13 PF1/(OSC_OUT)[I2C2_SCL/SPI2_SCK/I2S2_CK], 14 NRST, 15 PC0/(ADC12_IN6/COMP7_INM)[TIM1_CH1], 16 PC1/(ADC12_IN7/COMP7_INP)[TIM1_CH2], 17 PC2/(ADC12_IN8)[COMP7_OUT/TIM1_CH3], 18 PC3/(ADC12_IN9)[TIM1_BKIN2/TIM1_CH4], 19 PF2/(ADC12_IN10)[TIM20_CH3], 20 VSSA, 21 VREF+, 22 VDDA, 23 PA0/(ADC1_IN1/COMP1_INM/RTC_ TAMP2/WKUP1)[USART2_CTS/TIM2_CH1_ETR/TIM8_BKIN/TIM8_ETR/TSC_G1_IO1/COMP1_OUT], 24 PA1/(ADC1_IN2/COMP1_INP/OPAMP1_VINP/OPAMP3_VINP)[USART2_RTS_DE/TIM2_CH2/TSC_G1_IO2/TIM15_CH1N/RTC_REFIN], 25 PA2/(ADC1_IN3/COMP2_INM/OPAMP1_VOUT)[USART2_TX/TIM2_CH3/TIM15_CH1/TSC_G1_IO3/COMP2_OUT], 26 PA3/(ADC1_IN4/OPAMP1_VINP/OPAMP1_VINM)[USART2_RX/TIM2_CH4/TIM15_CH2/TSC_G1_IO4], 27 VSS, 28 VDD, 29 PA4/(ADC2_IN1/DAC1_OUT1/OPAMP4_VINP/COMP1_INM/COMP2_INM/COMP3_INM/COMP4_INM/COMP5_INM/COMP6_INM/COMP7_INM), 30 PA5/(ADC2_IN2/DAC1_OUT2/OPAMP1_VINP/OPAMP2_VINM/OPAMP3_VINP/COMP1_INM/COMP2_INM/COMP3_INM/COMP4_INM/COMP5_INM/, 31 PA6/(ADC2_IN3/OPAMP2_VOUT)[SPI1_MISO/TIM3_CH1/TIM8_BKIN/TIM1_BKIN/TIM16_CH1/COMP1_OUT/TSC_G2_IO3], 32 PA7/(ADC2_IN4/COMP2_INP/OPAMP2_VINP/OPAMP1_VINP)[SPI1_MOSI/TIM3_CH2/TIM17_CH1/TIM1_CH1N/TIM8_CH1N/TSC_G2_IO4/COMP2_OUT], 33 PC4/(ADC2_IN5)[USART1_TX/TIM1_ETR], 34 PC5/(ADC2_IN11/OPAMP2_VINM/OPAMP1_VINM)[USART1_RX/TSC_G3_IO1/TIM15_BKIN], 35 PB0/(ADC3_IN12/COMP4_INP/OPAMP3_VINP/OPAMP2_VINP)[TIM3_CH3/TIM1_CH2N/TIM8_CH2N/TSC_G3_IO2], 36 PB1/(ADC3_IN1/OPAMP3_VOUT)[TIM3_CH4/TIM1_CH3N/TIM8_CH3N/COMP4_OUT/TSC_G3_IO3], 37 PB2/(ADC2_IN12/COMP4_INM/OPAMP3_VINM)[TSC_G3_IO4], 38 PE7/( ADC3_IN13)[TIM1_ETR], 39 PE8/(COMP4_INM/ADC34_IN6)[TIM1_CH1N], 40 PE9/(ADC3_IN2)[TIM1_CH1], 41 PE10/(ADC3_IN14)[TIM1_CH2N], 42 PE11/(ADC3_IN15)[TIM1_CH2/SPI4_NSS], 43 PE12/(ADC3_IN16)[TIM3_CH3N/SPI4_SCK], 44 PE13/(ADC3_IN3)[TIM1_CH3/SPI4_MISO], 45 PE14/(ADC4_IN1)[TIM1_CH4/TIM1_BKIN2/SPI4_MOSI], 46 PE15/(ADC4_IN2)[USART3_RX/TIM1_BKIN], 47 PB10/(COMP5_INM/OPAMP4_VINM/OPAMP3_VINM)[USART3_TX/TIM2_CH3/TSC_SYNC], 48 PB11/(ADC12_IN14/COMP6_INP/OPAMP4_VINP)[USART3_RX/TIM2_CH4/TSC_G6_IO1], 49 VSS, 50 VDD, 51 PB12/(ADC4_IN3/COMP3_INM/OPAMP4_VOUT)[SPI2_NSS/I2S2_WS/I2C2_SMBAL/USART3_CK/TIM1_BKIN/TSC_G6_IO2], 52 PB13/(ADC3_IN5/COMP5_INP/OPAMP4_VINP/OPAMP3_VINP)[SPI2_SCK/I2S2_CK/USART3_CTS/TIM1_CH1N/TSC_G6_IO3], 53 PB14/(ADC4_IN4/COMP3_INP/OPAMP2_VINP)[SPI2_MISO/I2S2ext_SD/USART3_RTS/TIM1_CH2N/TIM15_CH1/TSC_G6_IO4], 54 PB15/(ADC4_IN5/COMP6_INM)[SPI2_MOSI/I2S2_SD/TIM1_CH3N/RTC_REFIN/TIM15_CH1N/TIM15_CH2], 55 PD8/(ADC4_IN12/OPAMP4_VINM)[USART3_TX], 56 PD9/(ADC4_IN13)[USART3_RX], 57 PD10/(ADC34_IN7/COMP6_INM)[USART3_CK], 58 PD11/(ADC34_IN8/OPAMP4_VINP)[USART3_CTS], 59 PD12/(ADC34_IN9)[USART3_RTS_DE/TIM4_CH1/TSC_G8_IO1], 60 PD13/(ADC34_IN10/COMP5_INM)[TIM4_CH2/TSC_G8_IO2], 61 PD14/(ADC34_IN11/OPAMP2_VINP)[TIM4_CH3/TSC_G8_IO3], 62 PD15/(COMP3_INM)[SPI2_NSS/TIM4_CH4/TSC_G8_IO4], 63 PC6/[I2S2_MCK/TIM8_CH1/TIM3_CH1/COMP6_OUT][*], 64 PC7/[I2S3_MCK/TIM8_CH2/TIM3_CH2/COMP5_OUT][*], 65 PC8/[TIM8_CH3/TIM3_CH3/COMP3_OUT][*], 66 PC9/[TIM8_CH4/TIM8_BKIN2/TIM3_CH4/I2S_CKIN/I2C3_SDA][*], 67 PA8/[I2C3_SCL/I2C2_SMBAL/I2S2_MCK/USART1_CK/TIM1_CH1/TIM4_ETR/MCO/COMP3_OUT][*], 68 PA9/[I2C3_SMBAL/I2C2_SCL/I2S3_MCK/USART1_TX/TIM1_CH2/TIM2_CH3/TIM15_BKIN/TSC_G4_IO1/COMP5_OUT] [*], 69 PA10/[I2C2_SDA/USART1_RX/TIM1_CH3/TIM2_CH4/TIM8_BKIN/TIM17_BKIN/SPI2_MISO/I2S2ext_SD/TSC_G4_IO2/COMP6_OUT] [*], 70 PA11/(USB_DM)[USART1_CTS/CAN_RX/TIM1_CH1N/TIM1_CH4/TIM1_BKIN2/TIM4_CH1/SPI2_MOSI/I2S2_SD/COMP1_OUT] [*], 71 PA12/(USB_DP)[USART1_RTS/CAN_TX/TIM1_CH2N/TIM1_ETR/TIM4_CH2/TIM16_CH1/I2SCKIN/COMP2_OUT] [*], 72 JTMS/SWDIO - PA13/[USART3_CTS/TIM4_CH3/TIM16_CH1N/TSC_G4_IO3/IR_OUT] [*], 73 PF6/[I2C2_SCL/USART3_RTS/TIM4_CH4][*], 74 VSS, 75 VDD, 76 JTCK/SWCLK - PA14/[I2C1_SDA/USART2_TX/TIM8_CH2/TIM1_BKIN/TSC_G4_IO4] [*], 77 JTDI - PA15/[I2C1_SCL/SPI1_NSS/SPI3_NSS/I2S3_WS/USART2_RX/TIM1_BKIN/TIM2_CH1_ETR/TIM8_CH1] [*], 78 PC10/[SPI3_SCK/I2S3_CK/USART3_TX/UART4_TX/TIM8_CH1N][*], 79 PC11/[SPI3_MISO/I2S3ext_SD/USART3_RX/UART4_RX/TIM8_CH2N][*], 80 PC12/[SPI3_MOSI/I2S3_SD/USART3_CK/UART5_TX/TIM8_CH3N][*], 81 PD0/[CAN_RX][*], 82 PD1/[CAN_TX/TIM8_CH4/TIM8_BKIN2][*], 83 PD2/[UART5_RX/TIM3_ETR/TIM8_BKIN][*], 84 PD3/[USART2_CTS/TIM2_CH1_ETR][*], 85 PD4/[USART2_RTS/TIM2_CH2][*], 86 PD5/[USART2_TX][*], 87 PD6/[USART2_RX/TIM2_CH4][*], 88 PC7/[USART2_CK/TIM2_CH3][*], 89 JTDO-TRACESWO - PB3/[SPI3_SCK/I2S3_CK/SPI1_SCK/USART2_TX/TIM2_CH2/TIM3_ETR/TIM4_ETR/TIM8_CH1N/TSC_G5_IO1][*], 90 JTRST - PB4/[SPI3_MISO/I2S3ext_SD/SPI1_MISO/USART2_RX/TIM3_CH1/TIM16_CH1/TIM17_BKIN/TIM8_CH2N/TSC_G5_IO2] [*], 91 PB5/[SPI3_MOSI/SPI1_MOSI/I2S3_SD/I2C1_SMBAI/USART2_CK/TIM16_BKIN/TIM3_CH2/TIM8_CH3N/TIM17_CH1/I2C3_SDA][*], 92 PB6/[I2C1_SCL/USART1_TX/TIM16_CH1N/TIM4_CH1/TIM8_CH1/TSC_G5_IO3/TIM8_ETR/TIM8_BKIN2][*], 93 PB7/[I2C1_SDA/USART1_RX/TIM3_CH4/TIM4_CH2/TIM17_CH1N/TIM8_BKIN/TSC_G5_IO4][*], 94 BOOT0, 95 PB8/[I2C1_SCL/CAN_RX/USART3_RX/TIM16_CH1/TIM4_CH3/TIM8_CH2/TIM1_BKIN/TSC_SYNC/COMP1_OUT][*], 96 PB9/[I2C1_SDA/CAN_TX/USART3_TX/TIM17_CH1/TIM4_CH4/TIM8_CH3/IR_OUT/COMP2_OUT][*], 97 PE0/[USART1_TX/TIM4_ETR/TIM16_CH1/TIM20_ETR][*], 98 PE1/[USART1_RX/TIM17_CH1/TIM20_CH4][*], 99 VSS, 100 VDD
text: MCU; [SPI1_NSS/SPI3_NSS/I2S3_WS/USART2_CK/TSC_G2_IO1/TIM3_CH2]; /COMP6_INM/COMP7_INM)[TIM2_CH1_ETR/TSC_G2_IO2/SPI1_SCK]

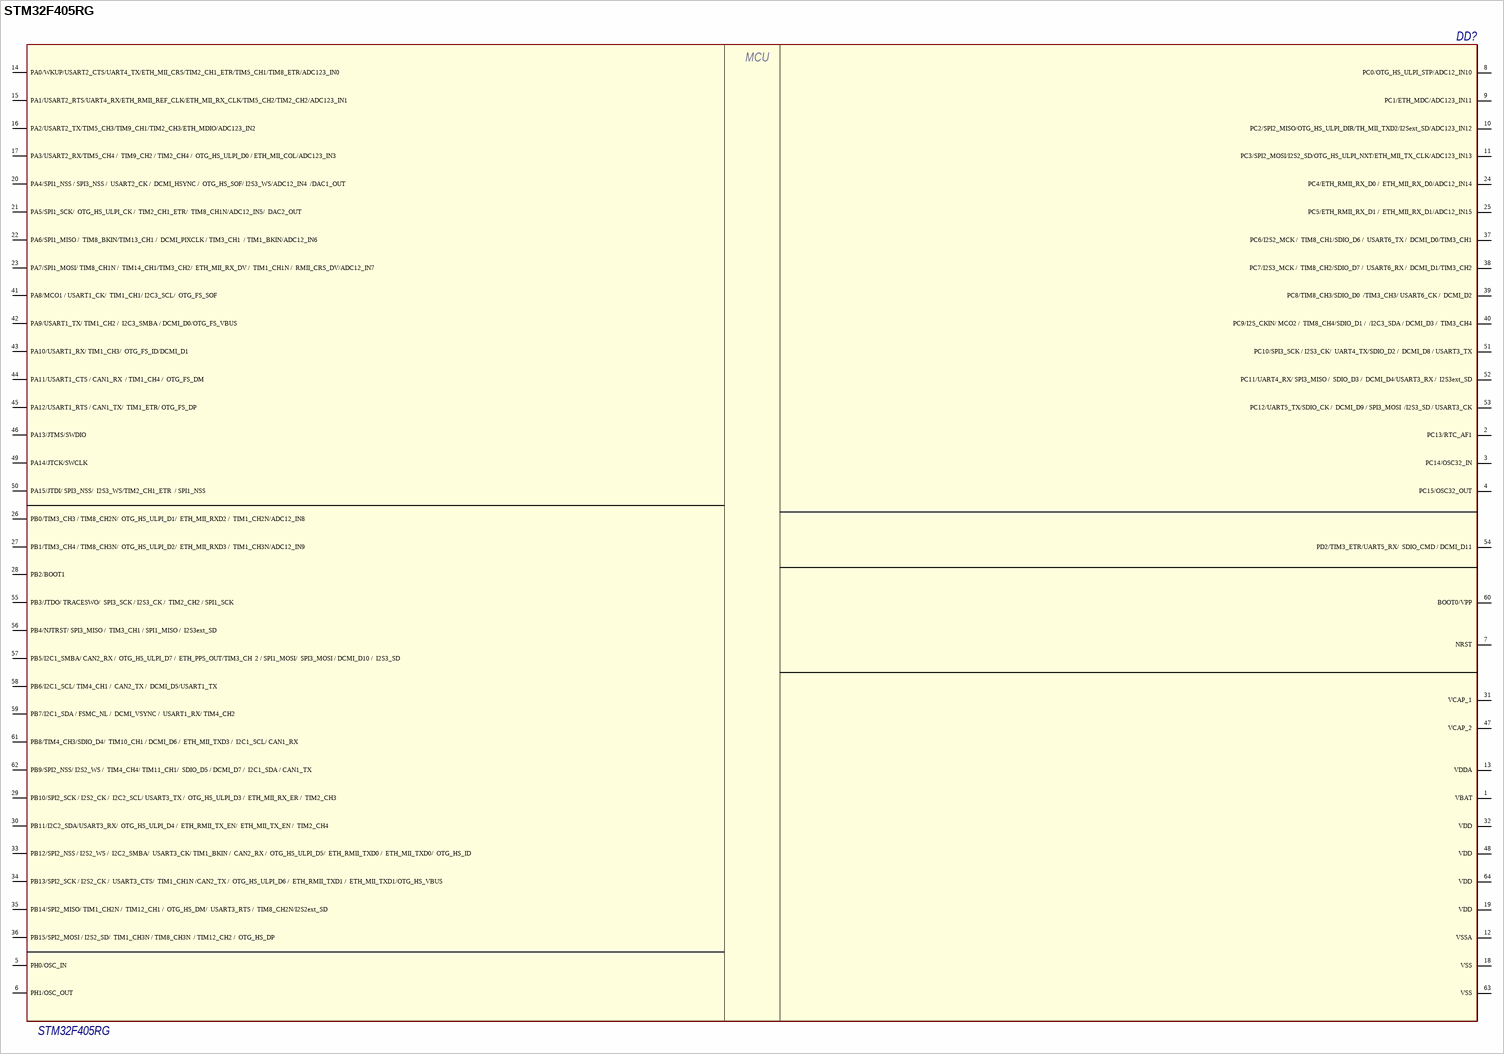
[diagram p16: symbol STM32F405RG]

## STM32F405RG
designator DD?
Микроконтроллер Cortex-M4; Name: STM32F405RG
footprint LQFP64_L (TSQFP, 64-Leads, Body 10,00x10,00mm, Pitch 0,50mm, IPC Medium Density)
footprint LQFP64_H (64-Pin Low Profile Quad Pack 0.5 mm Pitch, IPC High Density)
pins: 1 VBAT, 2 PC13/RTC_AF1, 3 PC14/OSC32_IN, 4 PC15/OSC32_OUT, 5 PH0/OSC_IN, 6 PH1/OSC_OUT, 7 NRST, 8 PC0/OTG_HS_ULPI_STP/ADC12_IN10, 9 PC1/ETH_MDC/ADC123_IN11, 10 PC2/SPI2_MISO/OTG_HS_ULPI_DIR/TH_MII_TXD2/I2Sext_SD/ADC123_IN12, 11 PC3/SPI2_MOSI/I2S2_SD/OTG_HS_ULPI_NXT/ETH_MII_TX_CLK/ADC123_IN13, 12 VSSA, 13 VDDA, 14 PA0/WKUP/USART2_CTS/UART4_TX/ETH_MII_CRS/TIM2_CH1_ETR/TIM5_CH1/TIM8_ETR/ADC123_IN0, 15 PA1/USART2_RTS/UART4_RX/ETH_RMII_REF_CLK/ETH_MII_RX_CLK/TIM5_CH2/TIM2_CH2/ADC123_IN1, 16 PA2/USART2_TX/TIM5_CH3/TIM9_CH1/TIM2_CH3/ETH_MDIO/ADC123_IN2, 17 PA3/USART2_RX/TIM5_CH4 /  TIM9_CH2 / TIM2_CH4 /  OTG_HS_ULPI_D0 / ETH_MII_COL/ADC123_IN3, 18 VSS, 19 VDD, 20 PA4/SPI1_NSS / SPI3_NSS /  USART2_CK /  DCMI_HSYNC /  OTG_HS_SOF/ I2S3_WS/ADC12_IN4  /DAC1_OUT, 21 PA5/SPI1_SCK/  OTG_HS_ULPI_CK /  TIM2_CH1_ETR/  TIM8_CH1N/ADC12_IN5/  DAC2_OUT, 22 PA6/SPI1_MISO /  TIM8_BKIN/TIM13_CH1 /  DCMI_PIXCLK / TIM3_CH1  / TIM1_BKIN/ADC12_IN6, 23 PA7/SPI1_MOSI/ TIM8_CH1N /  TIM14_CH1/TIM3_CH2/  ETH_MII_RX_DV /  TIM1_CH1N /  RMII_CRS_DV/ADC12_IN7, 24 PC4/ETH_RMII_RX_D0 /  ETH_MII_RX_D0/ADC12_IN14, 25 PC5/ETH_RMII_RX_D1 /  ETH_MII_RX_D1/ADC12_IN15, 26 PB0/TIM3_CH3 / TIM8_CH2N/  OTG_HS_ULPI_D1/  ETH_MII_RXD2 /  TIM1_CH2N/ADC12_IN8, 27 PB1/TIM3_CH4 / TIM8_CH3N/  OTG_HS_ULPI_D2/  ETH_MII_RXD3 /  TIM1_CH3N/ADC12_IN9, 28 PB2/BOOT1, 29 PB10/SPI2_SCK / I2S2_CK /  I2C2_SCL/ USART3_TX /  OTG_HS_ULPI_D3 /  ETH_MII_RX_ER /  TIM2_CH3, 30 PB11/I2C2_SDA/USART3_RX/  OTG_HS_ULPI_D4 /  ETH_RMII_TX_EN/  ETH_MII_TX_EN /  TIM2_CH4, 31 VCAP_1, 32 VDD, 33 PB12/SPI2_NSS / I2S2_WS /  I2C2_SMBA/  USART3_CK/ TIM1_BKIN /  CAN2_RX /  OTG_HS_ULPI_D5/  ETH_RMII_TXD0 /  ETH_MII_TXD0/  OTG_HS_ID, 34 PB13/SPI2_SCK / I2S2_CK /  USART3_CTS/  TIM1_CH1N /CAN2_TX /  OTG_HS_ULPI_D6 /  ETH_RMII_TXD1 /  ETH_MII_TXD1/OTG_HS_VBUS, 35 PB14/SPI2_MISO/ TIM1_CH2N /  TIM12_CH1 /  OTG_HS_DM/  USART3_RTS /  TIM8_CH2N/I2S2ext_SD, 36 PB15/SPI2_MOSI / I2S2_SD/  TIM1_CH3N / TIM8_CH3N  / TIM12_CH2 /  OTG_HS_DP, 37 PC6/I2S2_MCK /  TIM8_CH1/SDIO_D6 /  USART6_TX /  DCMI_D0/TIM3_CH1, 38 PC7/I2S3_MCK /  TIM8_CH2/SDIO_D7 /  USART6_RX /  DCMI_D1/TIM3_CH2, 39 PC8/TIM8_CH3/SDIO_D0  /TIM3_CH3/ USART6_CK /  DCMI_D2, 40 PC9/I2S_CKIN/ MCO2 /  TIM8_CH4/SDIO_D1 /  /I2C3_SDA / DCMI_D3 /  TIM3_CH4, 41 PA8/MCO1 / USART1_CK/  TIM1_CH1/ I2C3_SCL/  OTG_FS_SOF, 42 PA9/USART1_TX/ TIM1_CH2 /  I2C3_SMBA / DCMI_D0/OTG_FS_VBUS, 43 PA10/USART1_RX/ TIM1_CH3/  OTG_FS_ID/DCMI_D1, 44 PA11/USART1_CTS / CAN1_RX  / TIM1_CH4 /  OTG_FS_DM, 45 PA12/USART1_RTS / CAN1_TX/  TIM1_ETR/ OTG_FS_DP, 46 PA13/JTMS/SWDIO, 47 VCAP_2, 48 VDD, 49 PA14/JTCK/SWCLK, 50 PA15/JTDI/ SPI3_NSS/  I2S3_WS/TIM2_CH1_ETR  / SPI1_NSS, 51 PC10/SPI3_SCK / I2S3_CK/  UART4_TX/SDIO_D2 /  DCMI_D8 / USART3_TX, 52 PC11/UART4_RX/ SPI3_MISO /  SDIO_D3 /  DCMI_D4/USART3_RX /  I2S3ext_SD, 53 PC12/UART5_TX/SDIO_CK /  DCMI_D9 / SPI3_MOSI  /I2S3_SD / USART3_CK, 54 PD2/TIM3_ETR/UART5_RX/  SDIO_CMD / DCMI_D11, 55 PB3/JTDO/ TRACESWO/  SPI3_SCK / I2S3_CK /  TIM2_CH2 / SPI1_SCK, 56 PB4/NJTRST/ SPI3_MISO /  TIM3_CH1 / SPI1_MISO /  I2S3ext_SD, 57 PB5/I2C1_SMBA/ CAN2_RX /  OTG_HS_ULPI_D7 /  ETH_PPS_OUT/TIM3_CH  2 / SPI1_MOSI/  SPI3_MOSI / DCMI_D10 /  I2S3_SD, 58 PB6/I2C1_SCL/ TIM4_CH1 /  CAN2_TX /  DCMI_D5/USART1_TX, 59 PB7/I2C1_SDA / FSMC_NL /  DCMI_VSYNC /  USART1_RX/ TIM4_CH2, 60 BOOT0/VPP, 61 PB8/TIM4_CH3/SDIO_D4/  TIM10_CH1 / DCMI_D6 /  ETH_MII_TXD3 /  I2C1_SCL/ CAN1_RX, 62 PB9/SPI2_NSS/ I2S2_WS /  TIM4_CH4/ TIM11_CH1/  SDIO_D5 / DCMI_D7 /  I2C1_SDA / CAN1_TX, 63 VSS, 64 VDD
text: MCU

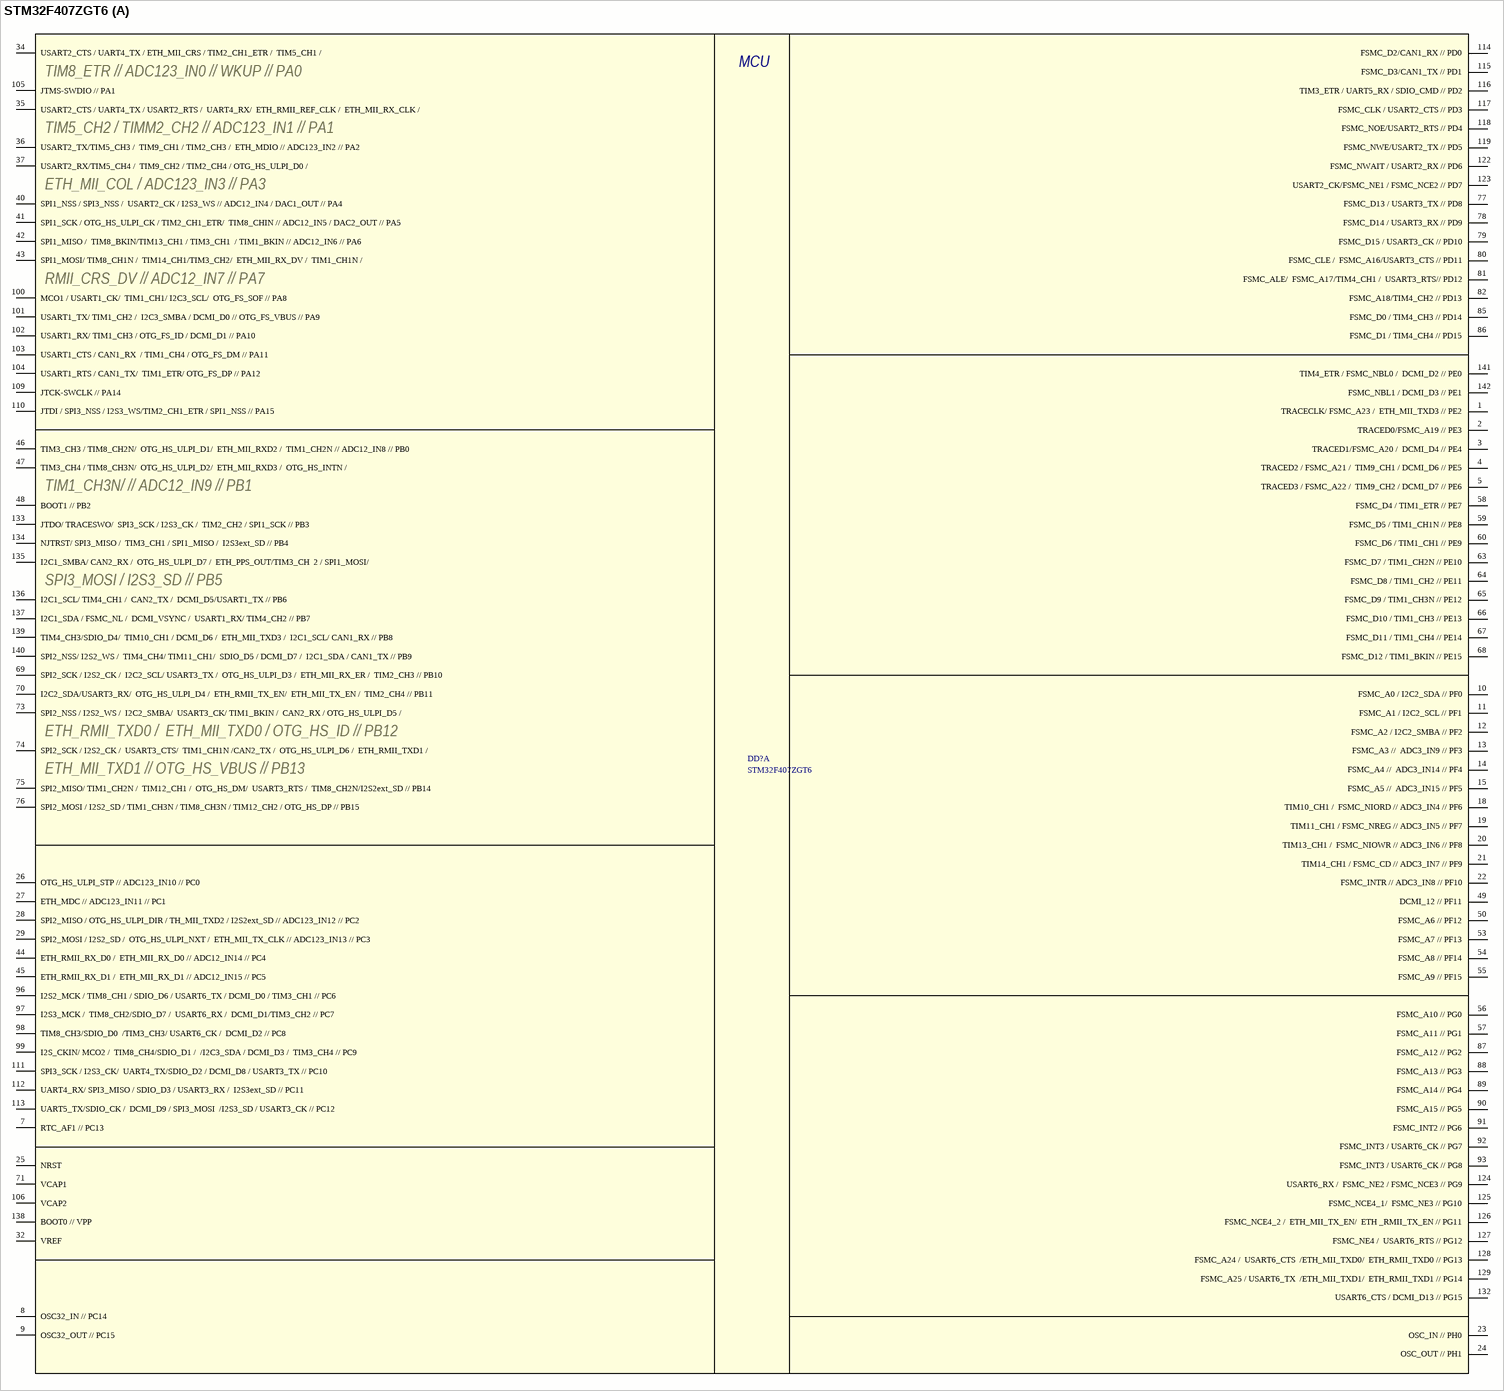
[diagram p17: symbol STM32F407ZGT6]

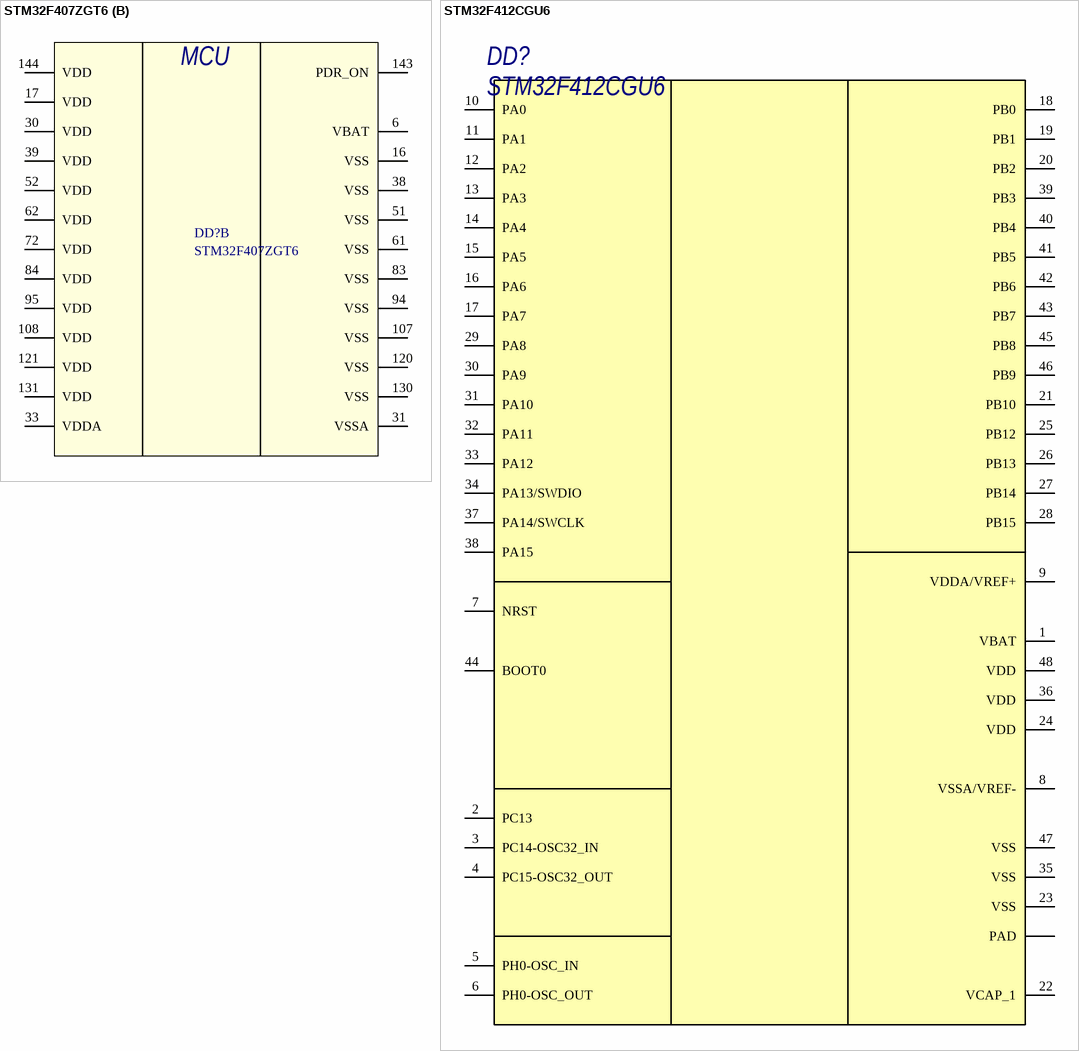
[diagram p18: symbols STM32F407ZGT6 to STM32F412CGU6]

## STM32F407ZGT6
designator DD?
Микроконтроллер 32-хразрядный; Manufacturer: STMicroelectronics; Name: STM32F407ZGT6; Package: LQFP144
footprint LQFP-144 (TSQFP, 144-Leads, Body 20,00x20,00mm, Pitch 0,50mm, IPC Medium Density)
part A pins: 1 TRACECLK/ FSMC_A23 /  ETH_MII_TXD3 // PE2, 2 TRACED0/FSMC_A19 // PE3, 3 TRACED1/FSMC_A20 /  DCMI_D4 // PE4, 4 TRACED2 / FSMC_A21 /  TIM9_CH1 / DCMI_D6 // PE5, 5 TRACED3 / FSMC_A22 /  TIM9_CH2 / DCMI_D7 // PE6, 7 RTC_AF1 // PC13, 8 OSC32_IN // PC14, 9 OSC32_OUT // PC15, 10 FSMC_A0 / I2C2_SDA // PF0, 11 FSMC_A1 / I2C2_SCL // PF1, 12 FSMC_A2 / I2C2_SMBA // PF2, 13 FSMC_A3 //  ADC3_IN9 // PF3, 14 FSMC_A4 //  ADC3_IN14 // PF4, 15 FSMC_A5 //  ADC3_IN15 // PF5, 18 TIM10_CH1 /  FSMC_NIORD // ADC3_IN4 // PF6, 19 TIM11_CH1 / FSMC_NREG // ADC3_IN5 // PF7, 20 TIM13_CH1 /  FSMC_NIOWR // ADC3_IN6 // PF8, 21 TIM14_CH1 / FSMC_CD // ADC3_IN7 // PF9, 22 FSMC_INTR // ADC3_IN8 // PF10, 23 OSC_IN // PH0, 24 OSC_OUT // PH1, 25 NRST, 26 OTG_HS_ULPI_STP // ADC123_IN10 // PC0, 27 ETH_MDC // ADC123_IN11 // PC1, 28 SPI2_MISO / OTG_HS_ULPI_DIR / TH_MII_TXD2 / I2S2ext_SD // ADC123_IN12 // PC2, 29 SPI2_MOSI / I2S2_SD /  OTG_HS_ULPI_NXT /  ETH_MII_TX_CLK // ADC123_IN13 // PC3, 32 VREF, 34 USART2_CTS / UART4_TX / ETH_MII_CRS / TIM2_CH1_ETR /  TIM5_CH1 /, 35 USART2_CTS / UART4_TX / USART2_RTS /  UART4_RX/  ETH_RMII_REF_CLK /  ETH_MII_RX_CLK / , 36 USART2_TX/TIM5_CH3 /  TIM9_CH1 / TIM2_CH3 /  ETH_MDIO // ADC123_IN2 // PA2, 37 USART2_RX/TIM5_CH4 /  TIM9_CH2 / TIM2_CH4 / OTG_HS_ULPI_D0 /, 40 SPI1_NSS / SPI3_NSS /  USART2_CK / I2S3_WS // ADC12_IN4 / DAC1_OUT // PA4, 41 SPI1_SCK / OTG_HS_ULPI_CK / TIM2_CH1_ETR/  TIM8_CHIN // ADC12_IN5 / DAC2_OUT // PA5, 42 SPI1_MISO /  TIM8_BKIN/TIM13_CH1 / TIM3_CH1  / TIM1_BKIN // ADC12_IN6 // PA6, 43 SPI1_MOSI/ TIM8_CH1N /  TIM14_CH1/TIM3_CH2/  ETH_MII_RX_DV /  TIM1_CH1N /, 44 ETH_RMII_RX_D0 /  ETH_MII_RX_D0 // ADC12_IN14 // PC4, 45 ETH_RMII_RX_D1 /  ETH_MII_RX_D1 // ADC12_IN15 // PC5, 46 TIM3_CH3 / TIM8_CH2N/  OTG_HS_ULPI_D1/  ETH_MII_RXD2 /  TIM1_CH2N // ADC12_IN8 // PB0, 47 TIM3_CH4 / TIM8_CH3N/  OTG_HS_ULPI_D2/  ETH_MII_RXD3 /  OTG_HS_INTN / , 48 BOOT1 // PB2, 49 DCMI_12 // PF11, 50 FSMC_A6 // PF12, 53  FSMC_A7 // PF13, 54  FSMC_A8 // PF14, 55  FSMC_A9 // PF15, 56 FSMC_A10 // PG0, 57 FSMC_A11 // PG1, 58  FSMC_D4 / TIM1_ETR // PE7, 59  FSMC_D5 / TIM1_CH1N // PE8, 60  FSMC_D6 / TIM1_CH1 // PE9, 63 FSMC_D7 / TIM1_CH2N // PE10, 64 FSMC_D8 / TIM1_CH2 // PE11, 65 FSMC_D9 / TIM1_CH3N // PE12, 66 FSMC_D10 / TIM1_CH3 // PE13, 67 FSMC_D11 / TIM1_CH4 // PE14, 68 FSMC_D12 / TIM1_BKIN // PE15, 69 SPI2_SCK / I2S2_CK /  I2C2_SCL/ USART3_TX /  OTG_HS_ULPI_D3 /  ETH_MII_RX_ER /  TIM2_CH3 // PB10, 70 I2C2_SDA/USART3_RX/  OTG_HS_ULPI_D4 /  ETH_RMII_TX_EN/  ETH_MII_TX_EN /  TIM2_CH4 // PB11, 71 VCAP1, 73 SPI2_NSS / I2S2_WS /  I2C2_SMBA/  USART3_CK/ TIM1_BKIN /  CAN2_RX / OTG_HS_ULPI_D5 / , 74 SPI2_SCK / I2S2_CK /  USART3_CTS/  TIM1_CH1N /CAN2_TX /  OTG_HS_ULPI_D6 /  ETH_RMII_TXD1 /, 75 SPI2_MISO/ TIM1_CH2N /  TIM12_CH1 /  OTG_HS_DM/  USART3_RTS /  TIM8_CH2N/I2S2ext_SD // PB14, 76 SPI2_MOSI / I2S2_SD / TIM1_CH3N / TIM8_CH3N / TIM12_CH2 / OTG_HS_DP // PB15, 77 FSMC_D13 / USART3_TX // PD8, 78 FSMC_D14 / USART3_RX // PD9, 79 FSMC_D15 / USART3_CK // PD10, 80 FSMC_CLE /  FSMC_A16/USART3_CTS // PD11, 81 FSMC_ALE/  FSMC_A17/TIM4_CH1 /  USART3_RTS// PD12, 82 FSMC_A18/TIM4_CH2 // PD13, 85 FSMC_D0 / TIM4_CH3 // PD14, 86 FSMC_D1 / TIM4_CH4 // PD15, 87 FSMC_A12 // PG2, 88 FSMC_A13 // PG3, 89 FSMC_A14 // PG4, 90 FSMC_A15 // PG5, 91 FSMC_INT2 // PG6, 92 FSMC_INT3 / USART6_CK // PG7, 93 FSMC_INT3 / USART6_CK // PG8, 96 I2S2_MCK / TIM8_CH1 / SDIO_D6 / USART6_TX / DCMI_D0 / TIM3_CH1 // PC6, 97 I2S3_MCK /  TIM8_CH2/SDIO_D7 /  USART6_RX /  DCMI_D1/TIM3_CH2 // PC7, 98 TIM8_CH3/SDIO_D0  /TIM3_CH3/ USART6_CK /  DCMI_D2 // PC8, 99 I2S_CKIN/ MCO2 /  TIM8_CH4/SDIO_D1 /  /I2C3_SDA / DCMI_D3 /  TIM3_CH4 // PC9, 100 MCO1 / USART1_CK/  TIM1_CH1/ I2C3_SCL/  OTG_FS_SOF // PA8, 101 USART1_TX/ TIM1_CH2 /  I2C3_SMBA / DCMI_D0 // OTG_FS_VBUS // PA9, 102 USART1_RX/ TIM1_CH3 / OTG_FS_ID / DCMI_D1 // PA10, 103 USART1_CTS / CAN1_RX  / TIM1_CH4 / OTG_FS_DM // PA11, 104 USART1_RTS / CAN1_TX/  TIM1_ETR/ OTG_FS_DP // PA12, 105 JTMS-SWDIO // PA1, 106 VCAP2, 109 JTCK-SWCLK // PA14, 110 JTDI / SPI3_NSS / I2S3_WS/TIM2_CH1_ETR / SPI1_NSS // PA15, 111 SPI3_SCK / I2S3_CK/  UART4_TX/SDIO_D2 / DCMI_D8 / USART3_TX // PC10, 112 UART4_RX/ SPI3_MISO / SDIO_D3 / USART3_RX /  I2S3ext_SD // PC11, 113 UART5_TX/SDIO_CK /  DCMI_D9 / SPI3_MOSI  /I2S3_SD / USART3_CK // PC12, 114 FSMC_D2/CAN1_RX // PD0, 115 FSMC_D3/CAN1_TX // PD1, 116 TIM3_ETR / UART5_RX / SDIO_CMD // PD2, 117 FSMC_CLK / USART2_CTS // PD3, 118 FSMC_NOE/USART2_RTS // PD4, 119 FSMC_NWE/USART2_TX // PD5, 122 FSMC_NWAIT / USART2_RX // PD6, 123 USART2_CK/FSMC_NE1 / FSMC_NCE2 // PD7, 124 USART6_RX /  FSMC_NE2 / FSMC_NCE3 // PG9, 125 FSMC_NCE4_1/  FSMC_NE3 // PG10, 126 FSMC_NCE4_2 /  ETH_MII_TX_EN/  ETH _RMII_TX_EN // PG11, 127 FSMC_NE4 /  USART6_RTS // PG12, 128 FSMC_A24 /  USART6_CTS  /ETH_MII_TXD0/  ETH_RMII_TXD0 // PG13, 129 FSMC_A25 / USART6_TX  /ETH_MII_TXD1/  ETH_RMII_TXD1 // PG14, 132 USART6_CTS / DCMI_D13 // PG15, 133 JTDO/ TRACESWO/  SPI3_SCK / I2S3_CK /  TIM2_CH2 / SPI1_SCK // PB3, 134 NJTRST/ SPI3_MISO /  TIM3_CH1 / SPI1_MISO /  I2S3ext_SD // PB4, 135 I2C1_SMBA/ CAN2_RX /  OTG_HS_ULPI_D7 /  ETH_PPS_OUT/TIM3_CH  2 / SPI1_MOSI/ , 136 I2C1_SCL/ TIM4_CH1 /  CAN2_TX /  DCMI_D5/USART1_TX // PB6, 137 I2C1_SDA / FSMC_NL /  DCMI_VSYNC /  USART1_RX/ TIM4_CH2 // PB7, 138 BOOT0 // VPP, 139 TIM4_CH3/SDIO_D4/  TIM10_CH1 / DCMI_D6 /  ETH_MII_TXD3 /  I2C1_SCL/ CAN1_RX // PB8, 140 SPI2_NSS/ I2S2_WS /  TIM4_CH4/ TIM11_CH1/  SDIO_D5 / DCMI_D7 /  I2C1_SDA / CAN1_TX // PB9, 141 TIM4_ETR / FSMC_NBL0 /  DCMI_D2 // PE0, 142 FSMC_NBL1 / DCMI_D3 // PE1
part B pins: 6 VBAT, 16 VSS, 17 VDD, 30 VDD, 31 VSSA, 33 VDDA, 38 VSS, 39 VDD, 51 VSS, 52 VDD, 61 VSS, 62 VDD, 72 VDD, 83 VSS, 84 VDD, 94 VSS, 95 VDD, 107 VSS, 108 VDD, 120 VSS, 121 VDD, 130 VSS, 131 VDD, 143 PDR_ON, 144 VDD
2 alternate drawings of the same symbol
part A text: MCU; TIM8_ETR // ADC123_IN0 // WKUP // PA0; TIM5_CH2 / TIMM2_CH2 // ADC123_IN1 // PA1; ETH_MII_COL / ADC123_IN3 // PA3; RMII_CRS_DV // ADC12_IN7 // PA7; TIM1_CH3N/ // ADC12_IN9 // PB1; SPI3_MOSI / I2S3_SD // PB5; ETH_RMII_TXD0 /  ETH_MII_TXD0 / OTG_HS_ID // PB12; ETH_MII_TXD1 // OTG_HS_VBUS // PB13
part B text: MCU